# Altium schematic symbol library RF_Module.SchLib: 61 symbols (part 1 of 2)
Pins are listed as number, name and electrical type; pins without a type are passive.

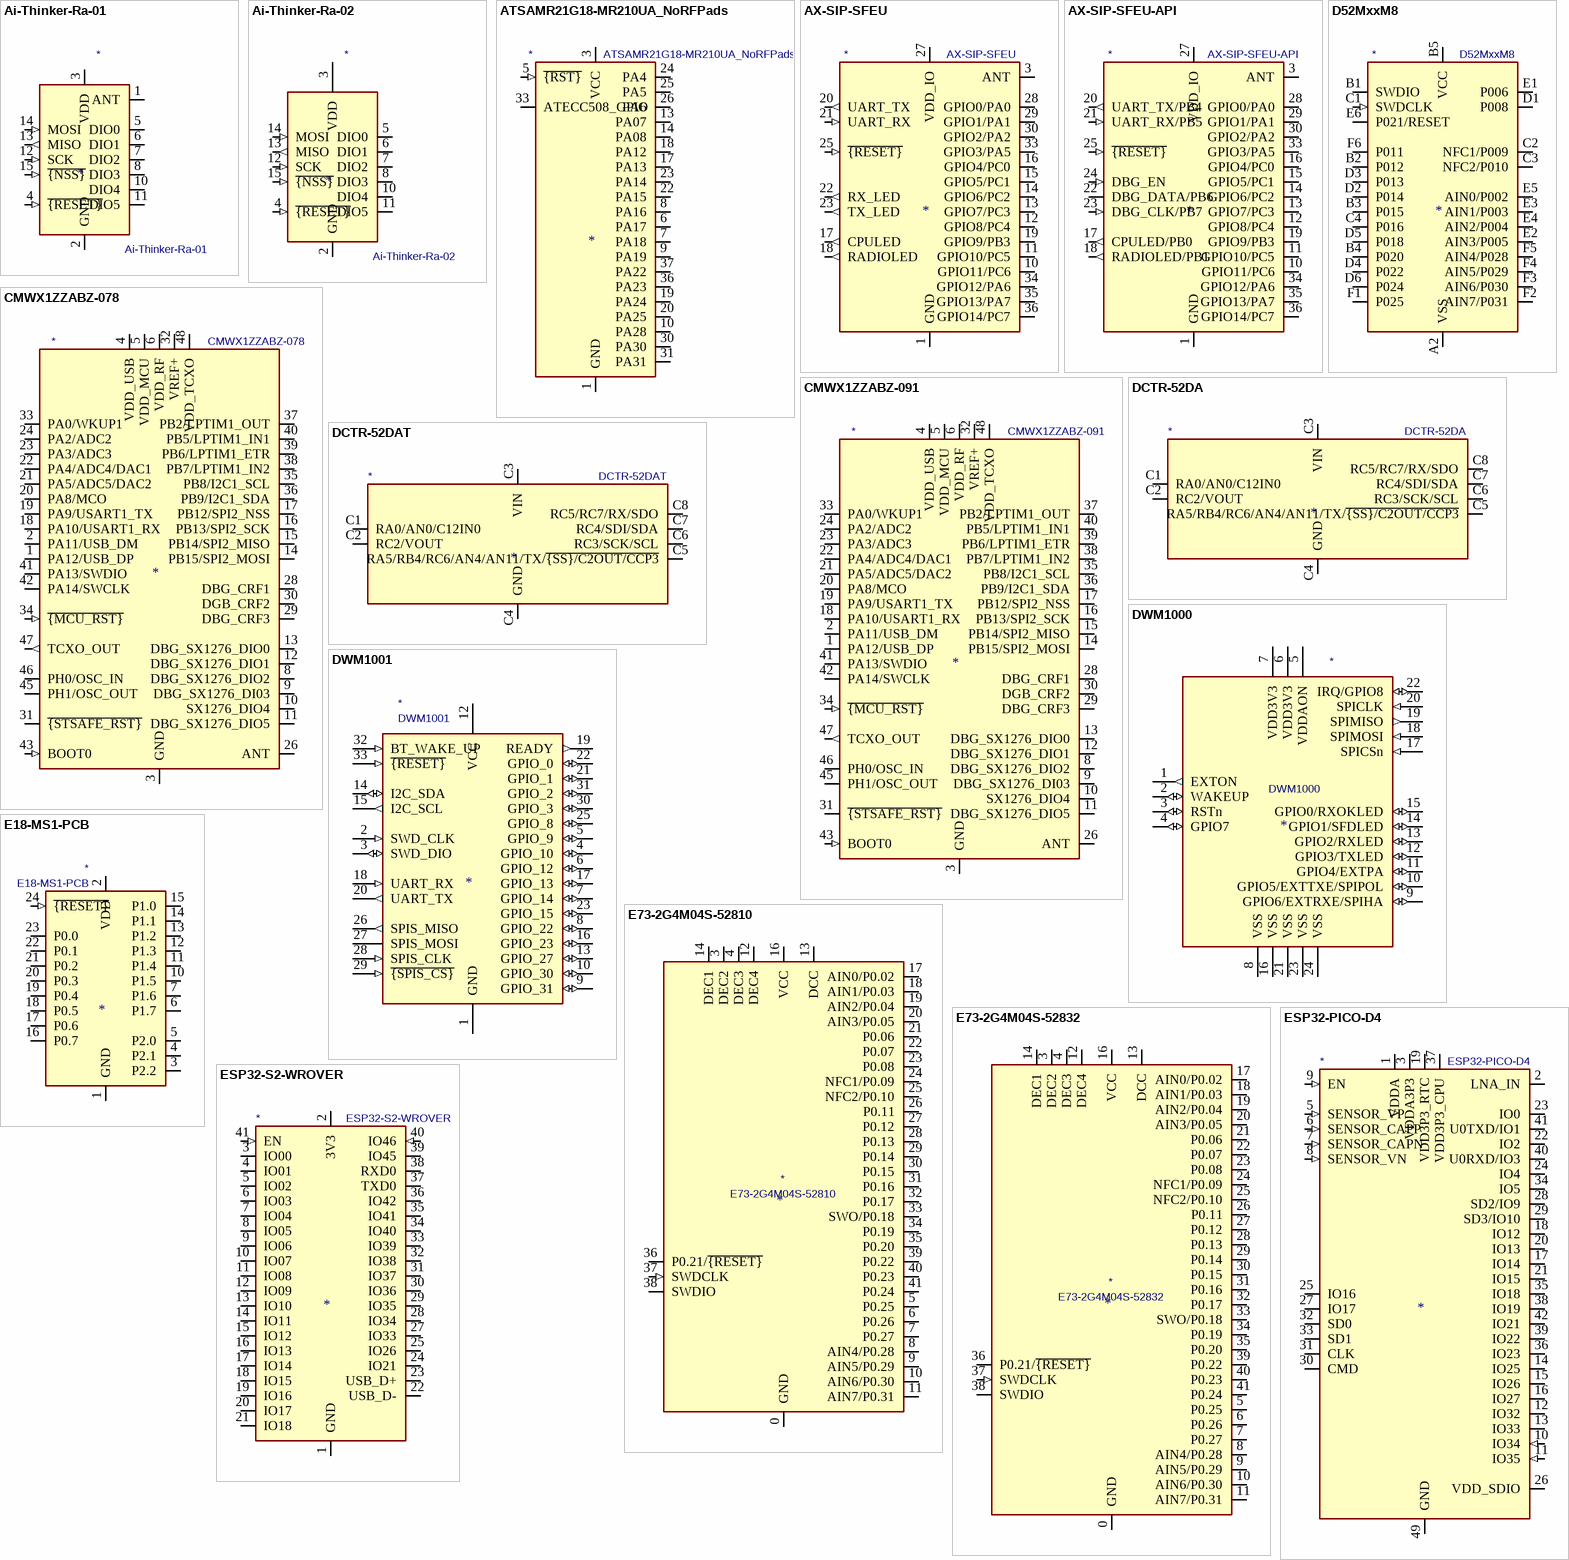
[diagram p0: symbols Ai-Thinker-Ra-01 to ESP32-S2-WROVER]

## Ai-Thinker-Ra-01
designator *  value Ai-Thinker-Ra-01
ki_keywords: Ra-01 LoRa; ki_description: Ai-Thinker Ra-01 410-525 MHz LoRa Module, SPI interface, external antenna; ki_fp_filters: Ai?Thinker?Ra?01*; Footprint: RF_Module:Ai-Thinker-Ra-01-LoRa; Supplier: http://wiki.ai-thinker.com/_media/lora/docs/c047ps01a1_ra-01_product_specification_v1.1.pdf
footprint Ai-Thinker-Ra-01-LoRa
pins: 1 ANT, 2 GND (power), 3 VDD (power), 4 ~{{RESET}} (in), 5 DIO0 (io), 6 DIO1 (io), 7 DIO2 (io), 8 DIO3 (io), 9 GND hidden, 10 DIO4 (io), 11 DIO5 (io), 12 SCK (in), 13 MISO (out), 14 MOSI (in), 15 ~{{NSS}} (in), 16 GND hidden

## Ai-Thinker-Ra-02
designator *  value Ai-Thinker-Ra-02
ki_keywords: Ra-02 LoRa; ki_description: Ai-Thinker Ra-02 410-525 MHz LoRa Module, SPI interface, U.FL antenna connector; ki_fp_filters: Ai?Thinker?Ra?01*; Footprint: RF_Module:Ai-Thinker-Ra-01-LoRa; Supplier: http://wiki.ai-thinker.com/_media/lora/docs/c048ps01a1_ra-02_product_specification_v1.1.pdf
footprint Ai-Thinker-Ra-01-LoRa
pins: 1 GND hidden, 2 GND (power), 3 VDD (power), 4 ~{{RESET}} (in), 5 DIO0 (io), 6 DIO1 (io), 7 DIO2 (io), 8 DIO3 (io), 9 GND hidden, 10 DIO4 (io), 11 DIO5 (io), 12 SCK (in), 13 MISO (out), 14 MOSI (in), 15 ~{{NSS}} (in), 16 GND hidden

## ATSAMR21G18-MR210UA_NoRFPads
designator *  value ATSAMR21G18-MR210UA_NoRFPads
ki_keywords: Wireless Zigbee 802.15.4 ATSAMR21G18 AT45DB041E TECC508A; ki_description: RF Module, ATSAMR21, Zigbee 802.15.4, external antenna, SMD; ki_fp_filters: Atmel*ATSAMR21G18*MR210UA*NoRFPads*; Footprint: RF_Module:Atmel_ATSAMR21G18-MR210UA_NoRFPads; Supplier: http://ww1.microchip.com/downloads/en/devicedoc/atmel-42475-atsamr21g18-mr210ua_datasheet.pdf
footprint Atmel_ATSAMR21G18-MR210UA_NoRFPads
pins: 1 GND (power), 2 GND hidden, 3 VCC (power), 4 VCC hidden, 5 ~{{RST}} (in), 6 PA17 (io), 7 PA18 (io), 8 PA16 (io), 9 PA19 (io), 10 PA28 (io), 11 NC (in) hidden, 12 GND hidden, 13 PA07 (io), 14 PA08 (io), 15 NC (in) hidden, 16 NC (in) hidden, 17 PA13 (io), 18 PA12 (io), 19 PA24 (io), 20 PA25 (io), 21 NC (in) hidden, 22 PA15 (io), 23 PA14 (io), 24 PA4 (io), 25 PA5 (io), 26 PA6 (io), 27 NC (in) hidden, 28 NC (in) hidden, 29 GND hidden, 30 PA30 (io), 31 PA31 (io), 32 NC (in) hidden, 33 ATECC508_GPIO (io), 34 NC (in) hidden, 35 NC (in) hidden, 36 PA23 (io), 37 PA22 (io), 38 NC (in) hidden, 39 NC (in) hidden, 40 NC (in) hidden, 41 GND hidden, 42 GND hidden

## AX-SIP-SFEU
designator *  value AX-SIP-SFEU
ki_keywords: Sigfox SIP 868Mhz; ki_description: Ultra low power, Sigfox or custom, system in package transceiver, 868Mhz; ki_fp_filters: OnSemi*SIP*6EP*9x7mm*P0.65mm*; Footprint: Package_DFN_QFN:OnSemi_SIP-38-6EP-9x7mm_P0.65mm_EP1.2x1.2mm; Supplier: https://www.onsemi.com/pub/Collateral/AX-SIP-SFEU-D.PDF
footprint OnSemi_SIP-38-6EP-9x7mm_P0.65mm_EP1.2x1.2mm
pins: 1 GND (power), 2 GND hidden, 3 ANT, 4 GND hidden, 5 NC (in) hidden, 6 GND hidden, 7 NC (in) hidden, 8 NC (in) hidden, 9 NC (in) hidden, 10 GPIO11/PC6 (io), 11 GPIO10/PC5 (io), 12 GPIO8/PC4 (io), 13 GPIO7/PC3 (io), 14 GPIO6/PC2 (io), 15 GPIO5/PC1 (io), 16 GPIO4/PC0 (io), 17 CPULED (out), 18 RADIOLED (out), 19 GPIO9/PB3 (io), 20 UART_TX (out), 21 UART_RX (in), 22 RX_LED (out), 23 TX_LED (out), 24 NC24 (in) hidden, 25 ~{{RESET}} (in), 26 GND hidden, 27 VDD_IO (power), 28 GPIO0/PA0 (io), 29 GPIO1/PA1 (io), 30 GPIO2/PA2 (io), 31 NC (in) hidden, 32 NC (in) hidden, 33 GPIO3/PA5 (io), 34 GPIO12/PA6 (io), 35 GPIO13/PA7 (io), 36 GPIO14/PC7 (io), 37 NC (in) hidden, 38 NC (in) hidden, 39 GND hidden, 40 GND hidden, 41 GND hidden, 42 GND hidden, 43 GND hidden, 44 GND hidden

## AX-SIP-SFEU-API
designator *  value AX-SIP-SFEU-API
ki_keywords: Sigfox SIP 868Mhz; ki_description: Ultra low power, Sigfox or custom, programmable system in package, 868Mhz; ki_fp_filters: OnSemi*SIP*6EP*9x7mm*P0.65mm*; Footprint: Package_DFN_QFN:OnSemi_SIP-38-6EP-9x7mm_P0.65mm_EP1.2x1.2mm; Supplier: https://www.onsemi.com/pub/Collateral/AX-SIP-SFEU-D.PDF
footprint OnSemi_SIP-38-6EP-9x7mm_P0.65mm_EP1.2x1.2mm
pins: 1 GND (power), 2 GND hidden, 3 ANT, 4 GND hidden, 5 NC (in) hidden, 6 GND hidden, 7 NC (in) hidden, 8 NC (in) hidden, 9 NC (in) hidden, 10 GPIO11/PC6 (io), 11 GPIO10/PC5 (io), 12 GPIO8/PC4 (io), 13 GPIO7/PC3 (io), 14 GPIO6/PC2 (io), 15 GPIO5/PC1 (io), 16 GPIO4/PC0 (io), 17 CPULED/PB0 (out), 18 RADIOLED/PB1 (out), 19 GPIO9/PB3 (io), 20 UART_TX/PB4 (out), 21 UART_RX/PB5 (in), 22 DBG_DATA/PB6 (io), 23 DBG_CLK/PB7 (in), 24 DBG_EN (in), 25 ~{{RESET}} (in), 26 GND hidden, 27 VDD_IO (power), 28 GPIO0/PA0 (io), 29 GPIO1/PA1 (io), 30 GPIO2/PA2 (io), 31 NC (in) hidden, 32 NC (in) hidden, 33 GPIO3/PA5 (io), 34 GPIO12/PA6 (io), 35 GPIO13/PA7 (io), 36 GPIO14/PC7 (io), 37 NC (in) hidden, 38 NC (in) hidden, 39 GND hidden, 40 GND hidden, 41 GND hidden, 42 GND hidden, 43 GND hidden, 44 GND hidden

## CMWX1ZZABZ-078
designator *  value CMWX1ZZABZ-078
ki_keywords: iot lora sigfox; ki_description: LoRa/SigFox Module, STM32L082 MCU, Murata CMWX1ZZABZ; ki_fp_filters: CMWX1ZZABZ*; Footprint: RF_Module:CMWX1ZZABZ; Supplier: https://wireless.murata.com/RFM/data/type_abz.pdf
footprint CMWX1ZZABZ
pins: 1 PA12/USB_DP (io), 2 PA11/USB_DM (io), 3 GND (power), 4 VDD_USB (power), 5 VDD_MCU (power), 6 VDD_RF (power), 7 GND hidden, 8 DBG_SX1276_DIO2 (io), 9 DBG_SX1276_DI03 (io), 10 SX1276_DIO4 (io), 11 DBG_SX1276_DIO5 (io), 12 DBG_SX1276_DIO1 (io), 13 DBG_SX1276_DIO0 (io), 14 PB15/SPI2_MOSI (io), 15 PB14/SPI2_MISO (io), 16 PB13/SPI2_SCK (io), 17 PB12/SPI2_NSS (io), 18 PA10/USART1_RX (io), 19 PA9/USART1_TX (io), 20 PA8/MCO (io), 21 PA5/ADC5/DAC2 (io), 22 PA4/ADC4/DAC1 (io), 23 PA3/ADC3 (io), 24 PA2/ADC2 (io), 25 GND hidden, 26 ANT, 27 GND hidden, 28 DBG_CRF1, 29 DBG_CRF3, 30 DGB_CRF2, 31 ~{{STSAFE_RST}}, 32 VREF+ (power), 33 PA0/WKUP1 (io), 34 ~{{MCU_RST}} (in), 35 PB8/I2C1_SCL (io), 36 PB9/I2C1_SDA (io), 37 PB2/LPTIM1_OUT (io), 38 PB7/LPTIM1_IN2 (io), 39 PB6/LPTIM1_ETR (io), 40 PB5/LPTIM1_IN1 (io), 41 PA13/SWDIO (io), 42 PA14/SWCLK (io), 43 BOOT0 (in), 44 GND hidden, 45 PH1/OSC_OUT (io), 46 PH0/OSC_IN (io), 47 TCXO_OUT (out), 48 VDD_TCXO (power), 49 GND hidden, 50 GND hidden, 51 GND hidden, 52 GND hidden, 53 GND hidden, 54 GND hidden, 55 GND hidden, 56 GND hidden, 57 GND hidden

## CMWX1ZZABZ-091
designator *  value CMWX1ZZABZ-091
ki_keywords: iot lora sigfox; ki_description: LoRa/SigFox Module, STM32L072 MCU, Murata CMWX1ZZABZ; ki_fp_filters: CMWX1ZZABZ*; Footprint: RF_Module:CMWX1ZZABZ; Supplier: https://wireless.murata.com/RFM/data/type_abz.pdf
footprint CMWX1ZZABZ
pins: 1 PA12/USB_DP (io), 2 PA11/USB_DM (io), 3 GND (power), 4 VDD_USB (power), 5 VDD_MCU (power), 6 VDD_RF (power), 7 GND hidden, 8 DBG_SX1276_DIO2 (io), 9 DBG_SX1276_DI03 (io), 10 SX1276_DIO4 (io), 11 DBG_SX1276_DIO5 (io), 12 DBG_SX1276_DIO1 (io), 13 DBG_SX1276_DIO0 (io), 14 PB15/SPI2_MOSI (io), 15 PB14/SPI2_MISO (io), 16 PB13/SPI2_SCK (io), 17 PB12/SPI2_NSS (io), 18 PA10/USART1_RX (io), 19 PA9/USART1_TX (io), 20 PA8/MCO (io), 21 PA5/ADC5/DAC2 (io), 22 PA4/ADC4/DAC1 (io), 23 PA3/ADC3 (io), 24 PA2/ADC2 (io), 25 GND hidden, 26 ANT, 27 GND hidden, 28 DBG_CRF1, 29 DBG_CRF3, 30 DGB_CRF2, 31 ~{{STSAFE_RST}}, 32 VREF+ (power), 33 PA0/WKUP1 (io), 34 ~{{MCU_RST}} (in), 35 PB8/I2C1_SCL (io), 36 PB9/I2C1_SDA (io), 37 PB2/LPTIM1_OUT (io), 38 PB7/LPTIM1_IN2 (io), 39 PB6/LPTIM1_ETR (io), 40 PB5/LPTIM1_IN1 (io), 41 PA13/SWDIO (io), 42 PA14/SWCLK (io), 43 BOOT0 (in), 44 GND hidden, 45 PH1/OSC_OUT (io), 46 PH0/OSC_IN (io), 47 TCXO_OUT (out), 48 VDD_TCXO (power), 49 GND hidden, 50 GND hidden, 51 GND hidden, 52 GND hidden, 53 GND hidden, 54 GND hidden, 55 GND hidden, 56 GND hidden, 57 GND hidden

## D52MxxM8
designator *  value D52MxxM8
ki_keywords: RF Radio ANT Bluetooth BLE D52 nRF52 Garmin Canada Dynastream Nordic; ki_description: D52M Module, nRF52832 SoC, ARM Cortex-M4F, 64kB RAM, 512kB Flash, 1.7-3.6V, M8-35; ki_fp_filters: Garmin*M8*9.8x14.0mm*Layout6x6*P1.5mm*; Footprint: RF_Module:Garmin_M8-35_9.8x14.0mm_Layout6x6_P1.5mm; Supplier: https://www.thisisant.com/assets/resources/D00001687_D52_Module_Datasheet.v.2.3_(Garmin).pdf
footprint Garmin_M8-35_9.8x14.0mm_Layout6x6_P1.5mm
pins: A2 VSS (power), A3 VSS hidden, A4 VSS hidden, A5 VSS hidden, A6 VSS hidden, B1 SWDIO (io), B2 P012 (io), B3 P015 (io), B4 P020 (io), B5 VCC (power), B6 VCC hidden, C1 SWDCLK (in), C2 NFC1/P009 (io), C3 NFC2/P010 (io), C4 P016 (io), C5 VCC hidden, C6 VCC hidden, D1 P008 (io), D2 P014 (io), D3 P013 (io), D4 P022 (io), D5 P018 (io), D6 P024 (io), E1 P006 (io), E2 AIN3/P005 (io), E3 AIN1/P003 (io), E4 AIN2/P004 (io), E5 AIN0/P002 (io), E6 P021/RESET (io), F1 P025 (io), F2 AIN7/P031 (io), F3 AIN6/P030 (io), F4 AIN5/P029 (io), F5 AIN4/P028 (io), F6 P011 (io)

## DCTR-52DA
designator *  value DCTR-52DA
ki_keywords: IQRF data controlled transceiver, PCB antenna, FSK modulation; ki_description: IQRF data controlled transceiver with PCB antenna, FSK modulation; ki_fp_filters: IQRF?TRx2DA?KON?SIM?01*; Footprint: RF_Module:IQRF_TRx2DA_KON-SIM-01; Supplier: https://iqrf.org/weben/downloads.php?id=213
footprint IQRF_TRx2DA_KON-SIM-01
pins: C1 RA0/AN0/C12IN0 (io), C2 RC2/VOUT (io), C3 VIN (power), C4 GND (power), C5 RA5/RB4/RC6/AN4/AN11/TX/~{{SS}/C2OUT/CCP3} (io), C6 RC3/SCK/SCL (io), C7 RC4/SDI/SDA (io), C8 RC5/RC7/RX/SDO (io)

## DCTR-52DAT
designator *  value DCTR-52DAT
ki_keywords: IQRF data controlled transceiver, PCB antenna, thermometer, FSK modulation; ki_description: IQRF data controlled transceiver with PCB antenna and thermometer, FSK modulation; ki_fp_filters: IQRF?TRx2DA?KON?SIM?01*; Footprint: RF_Module:IQRF_TRx2DA_KON-SIM-01; Supplier: https://iqrf.org/weben/downloads.php?id=213
footprint IQRF_TRx2DA_KON-SIM-01
pins: C1 RA0/AN0/C12IN0 (io), C2 RC2/VOUT (io), C3 VIN (power), C4 GND (power), C5 RA5/RB4/RC6/AN4/AN11/TX/~{{SS}/C2OUT/CCP3} (io), C6 RC3/SCK/SCL (io), C7 RC4/SDI/SDA (io), C8 RC5/RC7/RX/SDO (io)

## DWM1000
designator *  value DWM1000
ki_keywords: DWM1000,Decawave,RF,ranging,UWB; ki_description: Ultra wide band RF module With ranging location capabilities; ki_fp_filters: *DWM1000*; Footprint: RF_Module:DWM1000; Supplier: https://www.decawave.com/sites/default/files/resources/dwm1000-datasheet-v1.3.pdf
footprint DWM1000
pins: 1 EXTON (out), 2 WAKEUP (io), 3 RSTn (io), 4 GPIO7 (io), 5 VDDAON (power), 6 VDD3V3 (power), 7 VDD3V3 (power), 8 VSS (power), 9 GPIO6/EXTRXE/SPIHA (io), 10 GPIO5/EXTTXE/SPIPOL (io), 11 GPIO4/EXTPA (io), 12 GPIO3/TXLED (io), 13 GPIO2/RXLED (io), 14 GPIO1/SFDLED (io), 15 GPIO0/RXOKLED (io), 16 VSS (power), 17 SPICSn (in), 18 SPIMOSI (in), 19 SPIMISO (out), 20 SPICLK (in), 21 VSS (power), 22 IRQ/GPIO8 (io), 23 VSS (power), 24 VSS (power)

## DWM1001
designator *  value DWM1001
ki_keywords: DWM1000  DecaWave RF ranging UWB; ki_description: Ultra wide band RF module With ranging location capabilities, I2C, UART, SPI, +2.8V to +3.6V VCC; ki_fp_filters: *DWM1001*; Footprint: RF_Module:DecaWave_DWM1001; Supplier: https://www.decawave.com/sites/default/files/dwm1001_datasheet.pdf
footprint DecaWave_DWM1001
pins: 1 GND (power), 2 SWD_CLK (in), 3 SWD_DIO (io), 4 GPIO_10 (io), 5 GPIO_9 (io), 6 GPIO_12 (io), 7 GPIO_14 (io), 8 GPIO_22 (io), 9 GPIO_31 (io), 10 GPIO_30 (io), 11 GND hidden, 12 VCC (power), 13 GPIO_27 (io), 14 I2C_SDA (io), 15 I2C_SCL (out), 16 GPIO_23 (io), 17 GPIO_13 (io), 18 UART_RX (in), 19 READY (out), 20 UART_TX (out), 21 GPIO_1 (io), 22 GPIO_0 (io), 23 GPIO_15 (io), 24 GND hidden, 25 GPIO_8 (io), 26 SPIS_MISO (out), 27 SPIS_MOSI (hiz), 28 SPIS_CLK (in), 29 ~{{SPIS_CS}} (in), 30 GPIO_3 (io), 31 GPIO_2 (io), 32 BT_WAKE_UP (in), 33 ~{{RESET}} (in), 34 GND hidden

## E18-MS1-PCB
designator *  value E18-MS1-PCB
ki_keywords: Zigbee, RF, 802.15.4; ki_description: Zigbee RF Module; ki_fp_filters: E18-MS1-PCB*; Footprint: RF_Module:E18-MS1-PCB; Supplier: http://www.cdebyte.com/en/downpdf.aspx?id=122
footprint E18-MS1-PCB
pins: 1 GND (power), 2 VDD (power), 3 P2.2 (io), 4 P2.1 (io), 5 P2.0 (io), 6 P1.7 (io), 7 P1.6 (io), 8 NC (in) hidden, 9 NC (in) hidden, 10 P1.5 (io), 11 P1.4 (io), 12 P1.3 (io), 13 P1.2 (io), 14 P1.1 (io), 15 P1.0 (io), 16 P0.7 (io), 17 P0.6 (io), 18 P0.5 (io), 19 P0.4 (io), 20 P0.3 (io), 21 P0.2 (io), 22 P0.1 (io), 23 P0.0 (io), 24 ~{{RESET}} (in)

## E73-2G4M04S-52810
designator *  value E73-2G4M04S-52810
ki_keywords: BLE5, BLE, nRF52810; ki_description: nRF52810 BLE5 Module; ki_fp_filters: E73*2G4M04S*; Footprint: RF_Module:E73-2G4M04S; Supplier: http://www.cdebyte.com/en/downpdf.aspx?id=243
footprint E73-2G4M04S
pins: 0 GND (power), 1 GND hidden, 2 GND hidden, 3 DEC2, 4 DEC3, 5 P0.25 (io), 6 P0.26 (io), 7 P0.27 (io), 8 AIN4/P0.28 (io), 9 AIN5/P0.29 (io), 10 AIN6/P0.30 (io), 11 AIN7/P0.31 (io), 12 DEC4, 13 DCC (power), 14 DEC1, 15 GND hidden, 16 VCC (power), 17 AIN0/P0.02 (io), 18 AIN1/P0.03 (io), 19 AIN2/P0.04 (io), 20 AIN3/P0.05 (io), 21 P0.06 (io), 22 P0.07 (io), 23 P0.08 (io), 24 NFC1/P0.09 (io), 25 NFC2/P0.10 (io), 26 P0.11 (io), 27 P0.12 (io), 28 P0.13 (io), 29 P0.14 (io), 30 P0.15 (io), 31 P0.16 (io), 32 P0.17 (io), 33 SWO/P0.18 (io), 34 P0.19 (io), 35 P0.20 (io), 36 P0.21/~{{RESET}} (io), 37 SWDCLK (in), 38 SWDIO (io), 39 P0.22 (io), 40 P0.23 (io), 41 P0.24 (io), 42 GND hidden, 43 GND hidden

## E73-2G4M04S-52832
designator *  value E73-2G4M04S-52832
ki_keywords: BLE5, BLE, nRF52832; ki_description: nRF52832 BLE5 Module; ki_fp_filters: E73*2G4M04S*; Footprint: RF_Module:E73-2G4M04S; Supplier: http://www.cdebyte.com/en/downpdf.aspx?id=243
footprint E73-2G4M04S
pins: 0 GND (power), 1 GND hidden, 2 GND hidden, 3 DEC2, 4 DEC3, 5 P0.25 (io), 6 P0.26 (io), 7 P0.27 (io), 8 AIN4/P0.28 (io), 9 AIN5/P0.29 (io), 10 AIN6/P0.30 (io), 11 AIN7/P0.31 (io), 12 DEC4, 13 DCC (power), 14 DEC1, 15 GND hidden, 16 VCC (power), 17 AIN0/P0.02 (io), 18 AIN1/P0.03 (io), 19 AIN2/P0.04 (io), 20 AIN3/P0.05 (io), 21 P0.06 (io), 22 P0.07 (io), 23 P0.08 (io), 24 NFC1/P0.09 (io), 25 NFC2/P0.10 (io), 26 P0.11 (io), 27 P0.12 (io), 28 P0.13 (io), 29 P0.14 (io), 30 P0.15 (io), 31 P0.16 (io), 32 P0.17 (io), 33 SWO/P0.18 (io), 34 P0.19 (io), 35 P0.20 (io), 36 P0.21/~{{RESET}} (io), 37 SWDCLK (in), 38 SWDIO (io), 39 P0.22 (io), 40 P0.23 (io), 41 P0.24 (io), 42 GND hidden, 43 GND hidden

## ESP32-PICO-D4
designator *  value ESP32-PICO-D4
ki_keywords: RF Radio BT ESP ESP32 Espressif external antenna; ki_description: RF Module, ESP32 SoC, Wi-Fi 802.11b/g/n, Bluetooth, BLE, 32-bit, 2.7-3.6V, external antenna, QFN-48; ki_fp_filters: QFN*1EP*7x7mm*P0.5mm*; Footprint: Package_DFN_QFN:QFN-48-1EP_7x7mm_P0.5mm_EP5.3x5.3mm; Supplier: https://www.espressif.com/sites/default/files/documentation/esp32-pico-d4_datasheet_en.pdf
footprint QFN-48-1EP_7x7mm_P0.5mm_EP5.3x5.3mm
pins: 1 VDDA (power), 2 LNA_IN (io), 3 VDDA3P3 (power), 4 VDDA3P3 hidden, 5 SENSOR_VP (in), 6 SENSOR_CAPP (in), 7 SENSOR_CAPN (in), 8 SENSOR_VN (in), 9 EN (in), 10 IO34 (in), 11 IO35 (in), 12 IO32 (io), 13 IO33 (io), 14 IO25 (io), 15 IO26 (io), 16 IO27 (io), 17 IO14 (io), 18 IO12 (io), 19 VDD3P3_RTC (power), 20 IO13 (io), 21 IO15 (io), 22 IO2 (io), 23 IO0 (io), 24 IO4 (io), 25 IO16 (io), 26 VDD_SDIO (power), 27 IO17 (io), 28 SD2/IO9 (io), 29 SD3/IO10 (io), 30 CMD (io), 31 CLK (io), 32 SD0 (io), 33 SD1 (io), 34 IO5 (io), 35 IO18 (io), 36 IO23 (io), 37 VDD3P3_CPU (power), 38 IO19 (io), 39 IO22 (io), 40 U0RXD/IO3 (io), 41 U0TXD/IO1 (io), 42 IO21 (io), 43 VDDA hidden, 44 XTAL_N_NC (in) hidden, 45 XTAL_P_NC (in) hidden, 46 VDDA hidden, 47 CAP2_NC (in) hidden, 48 CAP1_NC (in) hidden, 49 GND (power)

## ESP32-S2-WROVER
designator *  value ESP32-S2-WROVER
ki_keywords: RF Radio ESP ESP32 Espressif onboard PCB antenna; ki_description: RF Module, ESP32-D0WDQ6 SoC, Wi-Fi 802.11b/g/n, 32-bit, 2.7-3.6V, onboard antenna, SMD; ki_fp_filters: ESP32?S2?WROVER*; Footprint: RF_Module:ESP32-S2-WROVER; Supplier: https://www.espressif.com/sites/default/files/documentation/esp32-s2-wroom_esp32-s2-wroom-i_datasheet_en.pdf
footprint ESP32-S2-WROVER
pins: 1 GND (power), 2 3V3 (power), 3 IO00 (io), 4 IO01 (io), 5 IO02 (io), 6 IO03 (io), 7 IO04 (io), 8 IO05 (io), 9 IO06 (io), 10 IO07 (io), 11 IO08 (io), 12 IO09 (io), 13 IO10 (io), 14 IO11 (io), 15 IO12 (io), 16 IO13 (io), 17 IO14 (io), 18 IO15 (io), 19 IO16 (io), 20 IO17 (io), 21 IO18 (io), 22 USB_D- (io), 23 USB_D+ (io), 24 IO21 (io), 25 IO26 (io), 26 GND hidden, 27 IO33 (io), 28 IO34 (io), 29 IO35 (io), 30 IO36 (io), 31 IO37 (io), 32 IO38 (io), 33 IO39 (io), 34 IO40 (io), 35 IO41 (io), 36 IO42 (io), 37 TXD0 (io), 38 RXD0 (io), 39 IO45 (io), 40 IO46 (in), 41 EN (in), 42 GND hidden, 43 GND hidden

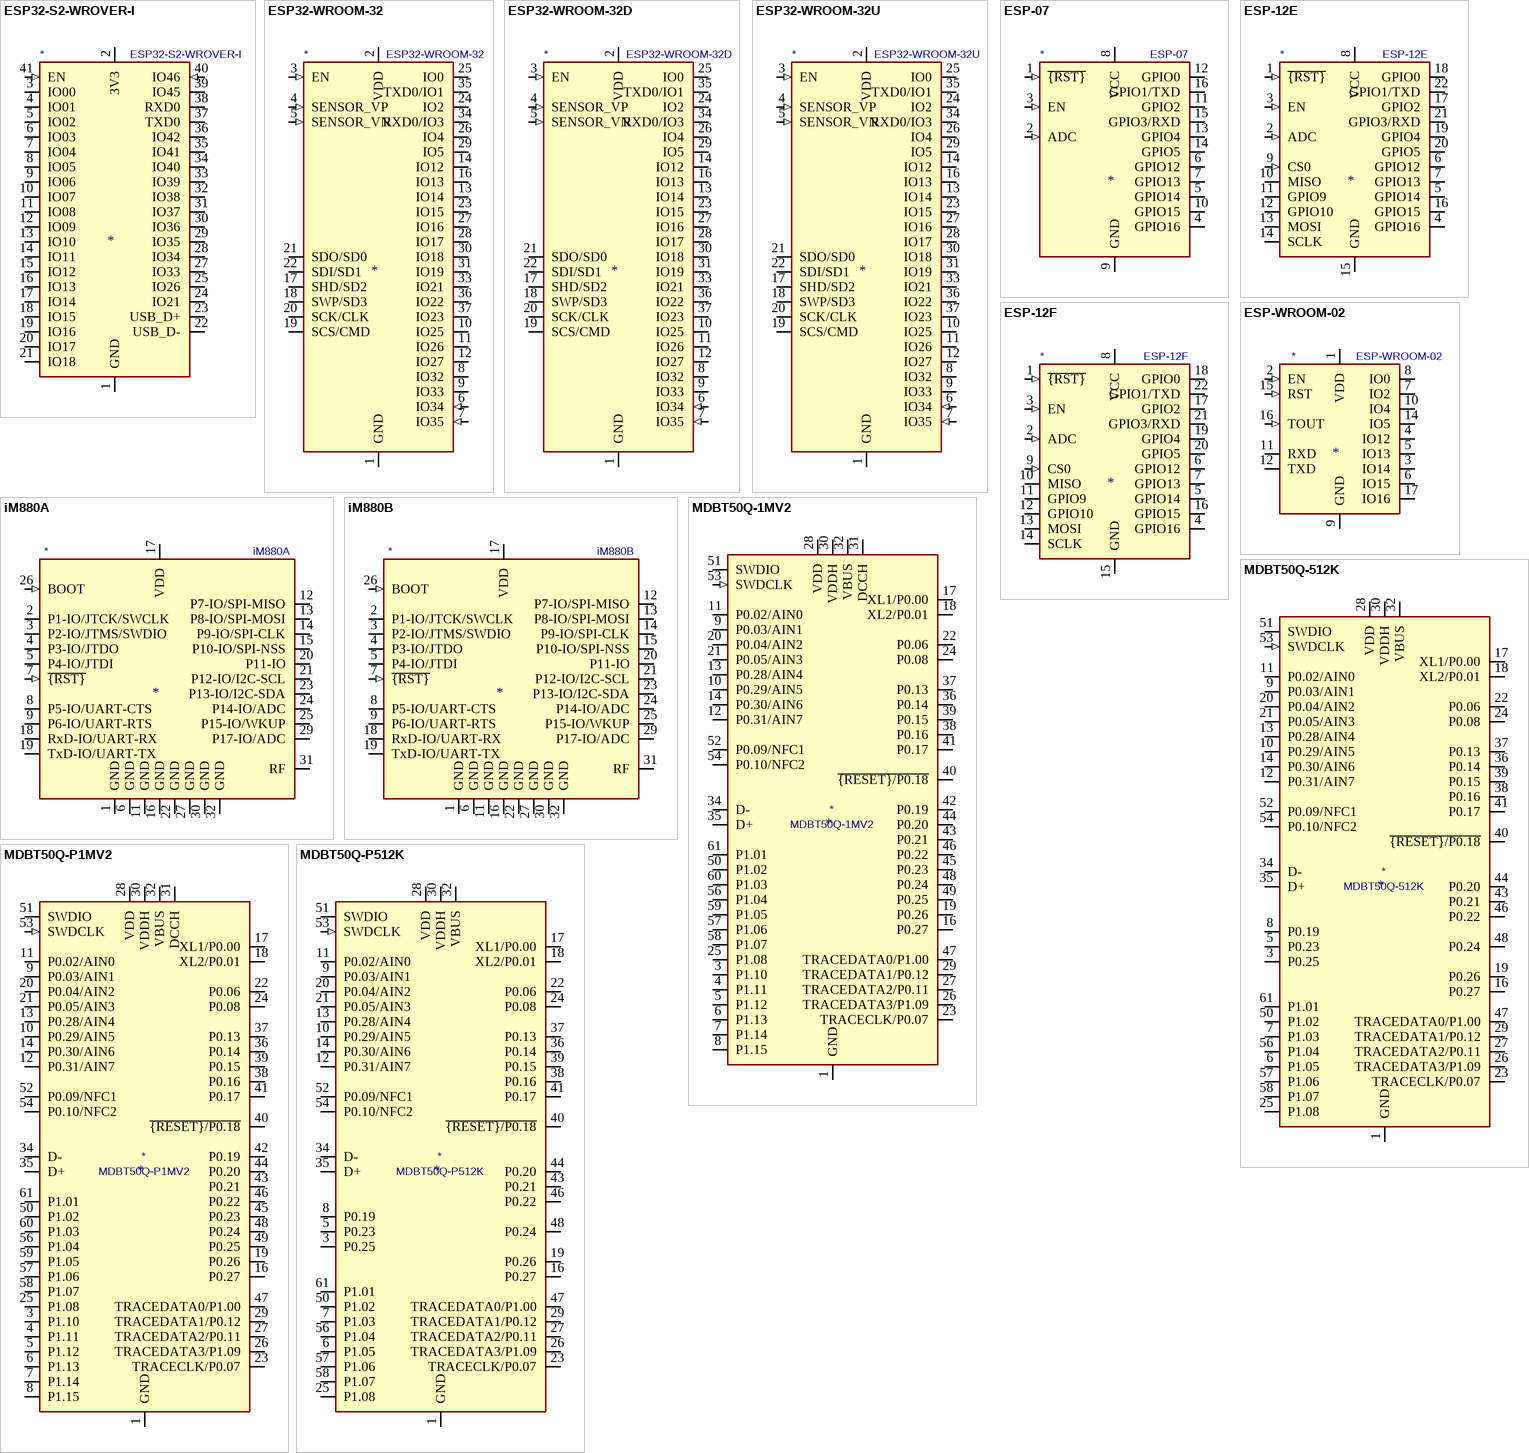
[diagram p1: symbols ESP32-S2-WROVER-I to MDBT50Q-P512K]

## ESP32-S2-WROVER-I
designator *  value ESP32-S2-WROVER-I
ki_keywords: RF Radio ESP ESP32 Espressif onboard PCB antenna; ki_description: RF Module, ESP32-D0WDQ6 SoC, Wi-Fi 802.11b/g/n, 32-bit, 2.7-3.6V, onboard antenna, SMD; ki_fp_filters: ESP32?S2?WROVER*; Footprint: RF_Module:ESP32-S2-WROVER; Supplier: https://www.espressif.com/sites/default/files/documentation/esp32-s2-wroom_esp32-s2-wroom-i_datasheet_en.pdf
footprint ESP32-S2-WROVER
pins: 1 GND (power), 2 3V3 (power), 3 IO00 (io), 4 IO01 (io), 5 IO02 (io), 6 IO03 (io), 7 IO04 (io), 8 IO05 (io), 9 IO06 (io), 10 IO07 (io), 11 IO08 (io), 12 IO09 (io), 13 IO10 (io), 14 IO11 (io), 15 IO12 (io), 16 IO13 (io), 17 IO14 (io), 18 IO15 (io), 19 IO16 (io), 20 IO17 (io), 21 IO18 (io), 22 USB_D- (io), 23 USB_D+ (io), 24 IO21 (io), 25 IO26 (io), 26 GND hidden, 27 IO33 (io), 28 IO34 (io), 29 IO35 (io), 30 IO36 (io), 31 IO37 (io), 32 IO38 (io), 33 IO39 (io), 34 IO40 (io), 35 IO41 (io), 36 IO42 (io), 37 TXD0 (io), 38 RXD0 (io), 39 IO45 (io), 40 IO46 (in), 41 EN (in), 42 GND hidden, 43 GND hidden

## ESP32-WROOM-32
designator *  value ESP32-WROOM-32
ki_keywords: RF Radio BT ESP ESP32 Espressif onboard PCB antenna; ki_description: RF Module, ESP32-D0WDQ6 SoC, Wi-Fi 802.11b/g/n, Bluetooth, BLE, 32-bit, 2.7-3.6V, onboard antenna, SMD; ki_fp_filters: ESP32?WROOM?32*; Footprint: RF_Module:ESP32-WROOM-32; Supplier: https://www.espressif.com/sites/default/files/documentation/esp32-wroom-32_datasheet_en.pdf
footprint ESP32-WROOM-32
pins: 1 GND (power), 2 VDD (power), 3 EN (in), 4 SENSOR_VP (in), 5 SENSOR_VN (in), 6 IO34 (in), 7 IO35 (in), 8 IO32 (io), 9 IO33 (io), 10 IO25 (io), 11 IO26 (io), 12 IO27 (io), 13 IO14 (io), 14 IO12 (io), 15 GND hidden, 16 IO13 (io), 17 SHD/SD2 (io), 18 SWP/SD3 (io), 19 SCS/CMD (io), 20 SCK/CLK (io), 21 SDO/SD0 (io), 22 SDI/SD1 (io), 23 IO15 (io), 24 IO2 (io), 25 IO0 (io), 26 IO4 (io), 27 IO16 (io), 28 IO17 (io), 29 IO5 (io), 30 IO18 (io), 31 IO19 (io), 32 NC (in) hidden, 33 IO21 (io), 34 RXD0/IO3 (io), 35 TXD0/IO1 (io), 36 IO22 (io), 37 IO23 (io), 38 GND hidden, 39 GND hidden

## ESP32-WROOM-32D
designator *  value ESP32-WROOM-32D
ki_keywords: RF Radio BT ESP ESP32 Espressif onboard PCB antenna; ki_description: RF Module, ESP32-D0WD SoC, Wi-Fi 802.11b/g/n, Bluetooth, BLE, 32-bit, 2.7-3.6V, onboard antenna, SMD; ki_fp_filters: ESP32?WROOM?32*; Footprint: RF_Module:ESP32-WROOM-32; Supplier: https://www.espressif.com/sites/default/files/documentation/esp32-wroom-32d_esp32-wroom-32u_datasheet_en.pdf
footprint ESP32-WROOM-32
pins: 1 GND (power), 2 VDD (power), 3 EN (in), 4 SENSOR_VP (in), 5 SENSOR_VN (in), 6 IO34 (in), 7 IO35 (in), 8 IO32 (io), 9 IO33 (io), 10 IO25 (io), 11 IO26 (io), 12 IO27 (io), 13 IO14 (io), 14 IO12 (io), 15 GND hidden, 16 IO13 (io), 17 SHD/SD2 (io), 18 SWP/SD3 (io), 19 SCS/CMD (io), 20 SCK/CLK (io), 21 SDO/SD0 (io), 22 SDI/SD1 (io), 23 IO15 (io), 24 IO2 (io), 25 IO0 (io), 26 IO4 (io), 27 IO16 (io), 28 IO17 (io), 29 IO5 (io), 30 IO18 (io), 31 IO19 (io), 32 NC (in) hidden, 33 IO21 (io), 34 RXD0/IO3 (io), 35 TXD0/IO1 (io), 36 IO22 (io), 37 IO23 (io), 38 GND hidden, 39 GND hidden

## ESP32-WROOM-32U
designator *  value ESP32-WROOM-32U
ki_keywords: RF Radio BT ESP ESP32 Espressif external U.FL antenna; ki_description: RF Module, ESP32-D0WD SoC, Wi-Fi 802.11b/g/n, Bluetooth, BLE, 32-bit, 2.7-3.6V, external antenna, SMD; ki_fp_filters: ESP32?WROOM?32U*; Footprint: RF_Module:ESP32-WROOM-32U; Supplier: https://www.espressif.com/sites/default/files/documentation/esp32-wroom-32d_esp32-wroom-32u_datasheet_en.pdf
footprint ESP32-WROOM-32U
pins: 1 GND (power), 2 VDD (power), 3 EN (in), 4 SENSOR_VP (in), 5 SENSOR_VN (in), 6 IO34 (in), 7 IO35 (in), 8 IO32 (io), 9 IO33 (io), 10 IO25 (io), 11 IO26 (io), 12 IO27 (io), 13 IO14 (io), 14 IO12 (io), 15 GND hidden, 16 IO13 (io), 17 SHD/SD2 (io), 18 SWP/SD3 (io), 19 SCS/CMD (io), 20 SCK/CLK (io), 21 SDO/SD0 (io), 22 SDI/SD1 (io), 23 IO15 (io), 24 IO2 (io), 25 IO0 (io), 26 IO4 (io), 27 IO16 (io), 28 IO17 (io), 29 IO5 (io), 30 IO18 (io), 31 IO19 (io), 32 NC (in) hidden, 33 IO21 (io), 34 RXD0/IO3 (io), 35 TXD0/IO1 (io), 36 IO22 (io), 37 IO23 (io), 38 GND hidden, 39 GND hidden

## ESP-07
designator *  value ESP-07
ki_keywords: 802.11 Wi-Fi; ki_description: 802.11 b/g/n Wi-Fi Module; ki_fp_filters: ESP?07*; Footprint: RF_Module:ESP-07; Supplier: http://wiki.ai-thinker.com/_media/esp8266/esp8266_series_modules_user_manual_v1.1.pdf
footprint ESP-07
pins: 1 ~{{RST}} (in), 2 ADC (in), 3 EN (in), 4 GPIO16 (io), 5 GPIO14 (io), 6 GPIO12 (io), 7 GPIO13 (io), 8 VCC (power), 9 GND (power), 10 GPIO15 (io), 11 GPIO2 (io), 12 GPIO0 (io), 13 GPIO4 (io), 14 GPIO5 (io), 15 GPIO3/RXD (io), 16 GPIO1/TXD (io)

## ESP-12E
designator *  value ESP-12E
ki_keywords: 802.11 Wi-Fi; ki_description: 802.11 b/g/n Wi-Fi Module; ki_fp_filters: ESP?12*; Footprint: RF_Module:ESP-12E; Supplier: http://wiki.ai-thinker.com/_media/esp8266/esp8266_series_modules_user_manual_v1.1.pdf
footprint ESP-12E
pins: 1 ~{{RST}} (in), 2 ADC (in), 3 EN (in), 4 GPIO16 (io), 5 GPIO14 (io), 6 GPIO12 (io), 7 GPIO13 (io), 8 VCC (power), 9 CS0 (in), 10 MISO (io), 11 GPIO9 (io), 12 GPIO10 (io), 13 MOSI (io), 14 SCLK (io), 15 GND (power), 16 GPIO15 (io), 17 GPIO2 (io), 18 GPIO0 (io), 19 GPIO4 (io), 20 GPIO5 (io), 21 GPIO3/RXD (io), 22 GPIO1/TXD (io)

## ESP-12F
designator *  value ESP-12F
ki_keywords: 802.11 Wi-Fi; ki_description: 802.11 b/g/n Wi-Fi Module; ki_fp_filters: ESP?12*; Footprint: RF_Module:ESP-12E; Supplier: http://wiki.ai-thinker.com/_media/esp8266/esp8266_series_modules_user_manual_v1.1.pdf
footprint ESP-12E
pins: 1 ~{{RST}} (in), 2 ADC (in), 3 EN (in), 4 GPIO16 (io), 5 GPIO14 (io), 6 GPIO12 (io), 7 GPIO13 (io), 8 VCC (power), 9 CS0 (in), 10 MISO (io), 11 GPIO9 (io), 12 GPIO10 (io), 13 MOSI (io), 14 SCLK (io), 15 GND (power), 16 GPIO15 (io), 17 GPIO2 (io), 18 GPIO0 (io), 19 GPIO4 (io), 20 GPIO5 (io), 21 GPIO3/RXD (io), 22 GPIO1/TXD (io)

## ESP-WROOM-02
designator *  value ESP-WROOM-02
ki_keywords: RF Radio ESP Espressif; ki_description: Wi-Fi Module, ESP8266EX SoC, 32-bit, 802.11b/g/n, WPA/WPA2, 2.7-3.6V, SMD; ki_fp_filters: ESP?WROOM?02*; Footprint: RF_Module:ESP-WROOM-02; Supplier: https://www.espressif.com/sites/default/files/documentation/0c-esp-wroom-02_datasheet_en.pdf
footprint ESP-WROOM-02
pins: 1 VDD (power), 2 EN (in), 3 IO14 (io), 4 IO12 (io), 5 IO13 (io), 6 IO15 (io), 7 IO2 (io), 8 IO0 (io), 9 GND (power), 10 IO4 (io), 11 RXD (io), 12 TXD (io), 13 GND hidden, 14 IO5 (io), 15 RST (in), 16 TOUT (in), 17 IO16 (io), 18 GND hidden, 19 GND hidden

## iM880A
designator *  value iM880A
ki_keywords: IOT LoRa; ki_description: IMST Long Range Radio Module; Supplier: http://www.wireless-solutions.de/images/stories/downloads/Radio%20Modules/iM880A/General_Information/iM880A_Datasheet_V1_1.pdf
pins: 1 GND (power), 2 P1-IO/JTCK/SWCLK (io), 3 P2-IO/JTMS/SWDIO (io), 4 P3-IO/JTDO (io), 5 P4-IO/JTDI (io), 6 GND (power), 7 ~{{RST}} (in), 8 P5-IO/UART-CTS (io), 9 P6-IO/UART-RTS (io), 10 NC (in) hidden, 11 GND (power), 12 P7-IO/SPI-MISO (io), 13 P8-IO/SPI-MOSI (io), 14 P9-IO/SPI-CLK (io), 15 P10-IO/SPI-NSS (io), 16 GND (power), 17 VDD (power), 18 RxD-IO/UART-RX (io), 19 TxD-IO/UART-TX (io), 20 P11-IO (io), 21 P12-IO/I2C-SCL (io), 22 GND (power), 23 P13-IO/I2C-SDA (io), 24 P14-IO/ADC (io), 25 P15-IO/WKUP (io), 26 BOOT (in), 27 GND (power), 28 NC (in) hidden, 29 P17-IO/ADC (io), 30 GND (power), 31 RF (io), 32 GND (power)

## iM880B
designator *  value iM880B
ki_keywords: IOT LoRa; ki_description: IMST Long Range Radio Module - LoRa Alliance Certified; Supplier: http://www.wireless-solutions.de/images/stories/downloads/Radio%20Modules/iM880B/General_Information/iM880B_Datasheet_V1_0.pdf
pins: 1 GND (power), 2 P1-IO/JTCK/SWCLK (io), 3 P2-IO/JTMS/SWDIO (io), 4 P3-IO/JTDO (io), 5 P4-IO/JTDI (io), 6 GND (power), 7 ~{{RST}} (in), 8 P5-IO/UART-CTS (io), 9 P6-IO/UART-RTS (io), 10 NC (in) hidden, 11 GND (power), 12 P7-IO/SPI-MISO (io), 13 P8-IO/SPI-MOSI (io), 14 P9-IO/SPI-CLK (io), 15 P10-IO/SPI-NSS (io), 16 GND (power), 17 VDD (power), 18 RxD-IO/UART-RX (io), 19 TxD-IO/UART-TX (io), 20 P11-IO (io), 21 P12-IO/I2C-SCL (io), 22 GND (power), 23 P13-IO/I2C-SDA (io), 24 P14-IO/ADC (io), 25 P15-IO/WKUP (io), 26 BOOT (in), 27 GND (power), 28 NC (in) hidden, 29 P17-IO/ADC (io), 30 GND (power), 31 RF (io), 32 GND (power)

## MDBT50Q-1MV2
designator *  value MDBT50Q-1MV2
ki_keywords: BLE ANT ZigBee Thread 802.15.4 nRF52840 nordic MDBT50Q; ki_description: Multiprotocol BLE/ANT/2.4 GHz/802.15.4 Cortex-M4F SoC, nRF52840 module; ki_fp_filters: Raytac?MDBT50Q*; Footprint: RF_Module:Raytac_MDBT50Q; Supplier: https://www.raytac.com/download/index.php?index_id=43
footprint Raytac_MDBT50Q
pins: 1 GND (power), 2 GND hidden, 3 P1.10 (io), 4 P1.11 (io), 5 P1.12 (io), 6 P1.13 (io), 7 P1.14 (io), 8 P1.15 (io), 9 P0.03/AIN1 (io), 10 P0.29/AIN5 (io), 11 P0.02/AIN0 (io), 12 P0.31/AIN7 (io), 13 P0.28/AIN4 (io), 14 P0.30/AIN6 (io), 15 GND hidden, 16 P0.27 (io), 17 XL1/P0.00 (io), 18 XL2/P0.01 (io), 19 P0.26 (io), 20 P0.04/AIN2 (io), 21 P0.05/AIN3 (io), 22 P0.06 (io), 23 TRACECLK/P0.07 (io), 24 P0.08 (io), 25 P1.08 (io), 26 TRACEDATA3/P1.09 (io), 27 TRACEDATA2/P0.11 (io), 28 VDD (power), 29 TRACEDATA1/P0.12 (io), 30 VDDH (power), 31 DCCH (power), 32 VBUS (power), 33 GND hidden, 34 D- (io), 35 D+ (io), 36 P0.14 (io), 37 P0.13 (io), 38 P0.16 (io), 39 P0.15 (io), 40 ~{{RESET}/P0.18} (io), 41 P0.17 (io), 42 P0.19 (io), 43 P0.21 (io), 44 P0.20 (io), 45 P0.23 (io), 46 P0.22 (io), 47 TRACEDATA0/P1.00 (io), 48 P0.24 (io), 49 P0.25 (io), 50 P1.02 (io), 51 SWDIO (io), 52 P0.09/NFC1 (io), 53 SWDCLK (in), 54 P0.10/NFC2 (io), 55 GND hidden, 56 P1.04 (io), 57 P1.06 (io), 58 P1.07 (io), 59 P1.05 (io), 60 P1.03 (io), 61 P1.01 (io)

## MDBT50Q-512K
designator *  value MDBT50Q-512K
ki_keywords: MCU, ARM, BLE, ANT, 2.4GHz, 802.15.4 MDBT50Q; ki_description: Multiprotocol BLE/ANT/2.4 GHz/802.15.4 Cortex-M4F SoC, nRF52833 module; ki_fp_filters: Raytac?MDBT50Q*; Footprint: RF_Module:Raytac_MDBT50Q; Supplier: https://www.raytac.com/download/index.php?index_id=46
footprint Raytac_MDBT50Q
pins: 1 GND (power), 2 GND hidden, 3 P0.25 (io), 4 NC (in) hidden, 5 P0.23 (io), 6 P1.05 (io), 7 P1.03 (io), 8 P0.19 (io), 9 P0.03/AIN1 (io), 10 P0.29/AIN5 (io), 11 P0.02/AIN0 (io), 12 P0.31/AIN7 (io), 13 P0.28/AIN4 (io), 14 P0.30/AIN6 (io), 15 GND hidden, 16 P0.27 (io), 17 XL1/P0.00 (io), 18 XL2/P0.01 (io), 19 P0.26 (io), 20 P0.04/AIN2 (io), 21 P0.05/AIN3 (io), 22 P0.06 (io), 23 TRACECLK/P0.07 (io), 24 P0.08 (io), 25 P1.08 (io), 26 TRACEDATA3/P1.09 (io), 27 TRACEDATA2/P0.11 (io), 28 VDD (power), 29 TRACEDATA1/P0.12 (io), 30 VDDH (power), 31 NC (in) hidden, 32 VBUS (power), 33 GND hidden, 34 D- (io), 35 D+ (io), 36 P0.14 (io), 37 P0.13 (io), 38 P0.16 (io), 39 P0.15 (io), 40 ~{{RESET}/P0.18} (io), 41 P0.17 (io), 42 P0.19 (in) hidden, 43 P0.21 (io), 44 P0.20 (io), 45 NC (in) hidden, 46 P0.22 (io), 47 TRACEDATA0/P1.00 (io), 48 P0.24 (io), 49 NC (in) hidden, 50 P1.02 (io), 51 SWDIO (io), 52 P0.09/NFC1 (io), 53 SWDCLK (in), 54 P0.10/NFC2 (io), 55 GND hidden, 56 P1.04 (io), 57 P1.06 (io), 58 P1.07 (io), 59 NC (in) hidden, 60 NC (in) hidden, 61 P1.01 (io)

## MDBT50Q-P1MV2
designator *  value MDBT50Q-P1MV2
ki_keywords: BLE ANT ZigBee Thread 802.15.4 nRF52840 nordic MDBT50Q; ki_description: Multiprotocol BLE/ANT/2.4 GHz/802.15.4 Cortex-M4F SoC, nRF52840 module; ki_fp_filters: Raytac?MDBT50Q*; Footprint: RF_Module:Raytac_MDBT50Q; Supplier: https://www.raytac.com/download/index.php?index_id=43
footprint Raytac_MDBT50Q
pins: 1 GND (power), 2 GND hidden, 3 P1.10 (io), 4 P1.11 (io), 5 P1.12 (io), 6 P1.13 (io), 7 P1.14 (io), 8 P1.15 (io), 9 P0.03/AIN1 (io), 10 P0.29/AIN5 (io), 11 P0.02/AIN0 (io), 12 P0.31/AIN7 (io), 13 P0.28/AIN4 (io), 14 P0.30/AIN6 (io), 15 GND hidden, 16 P0.27 (io), 17 XL1/P0.00 (io), 18 XL2/P0.01 (io), 19 P0.26 (io), 20 P0.04/AIN2 (io), 21 P0.05/AIN3 (io), 22 P0.06 (io), 23 TRACECLK/P0.07 (io), 24 P0.08 (io), 25 P1.08 (io), 26 TRACEDATA3/P1.09 (io), 27 TRACEDATA2/P0.11 (io), 28 VDD (power), 29 TRACEDATA1/P0.12 (io), 30 VDDH (power), 31 DCCH (power), 32 VBUS (power), 33 GND hidden, 34 D- (io), 35 D+ (io), 36 P0.14 (io), 37 P0.13 (io), 38 P0.16 (io), 39 P0.15 (io), 40 ~{{RESET}/P0.18} (io), 41 P0.17 (io), 42 P0.19 (io), 43 P0.21 (io), 44 P0.20 (io), 45 P0.23 (io), 46 P0.22 (io), 47 TRACEDATA0/P1.00 (io), 48 P0.24 (io), 49 P0.25 (io), 50 P1.02 (io), 51 SWDIO (io), 52 P0.09/NFC1 (io), 53 SWDCLK (in), 54 P0.10/NFC2 (io), 55 GND hidden, 56 P1.04 (io), 57 P1.06 (io), 58 P1.07 (io), 59 P1.05 (io), 60 P1.03 (io), 61 P1.01 (io)

## MDBT50Q-P512K
designator *  value MDBT50Q-P512K
ki_keywords: MCU, ARM, BLE, ANT, 2.4GHz, 802.15.4 MDBT50Q; ki_description: Multiprotocol BLE/ANT/2.4 GHz/802.15.4 Cortex-M4F SoC, nRF52833 module; ki_fp_filters: Raytac?MDBT50Q*; Footprint: RF_Module:Raytac_MDBT50Q; Supplier: https://www.raytac.com/download/index.php?index_id=46
footprint Raytac_MDBT50Q
pins: 1 GND (power), 2 GND hidden, 3 P0.25 (io), 4 NC (in) hidden, 5 P0.23 (io), 6 P1.05 (io), 7 P1.03 (io), 8 P0.19 (io), 9 P0.03/AIN1 (io), 10 P0.29/AIN5 (io), 11 P0.02/AIN0 (io), 12 P0.31/AIN7 (io), 13 P0.28/AIN4 (io), 14 P0.30/AIN6 (io), 15 GND hidden, 16 P0.27 (io), 17 XL1/P0.00 (io), 18 XL2/P0.01 (io), 19 P0.26 (io), 20 P0.04/AIN2 (io), 21 P0.05/AIN3 (io), 22 P0.06 (io), 23 TRACECLK/P0.07 (io), 24 P0.08 (io), 25 P1.08 (io), 26 TRACEDATA3/P1.09 (io), 27 TRACEDATA2/P0.11 (io), 28 VDD (power), 29 TRACEDATA1/P0.12 (io), 30 VDDH (power), 31 NC (in) hidden, 32 VBUS (power), 33 GND hidden, 34 D- (io), 35 D+ (io), 36 P0.14 (io), 37 P0.13 (io), 38 P0.16 (io), 39 P0.15 (io), 40 ~{{RESET}/P0.18} (io), 41 P0.17 (io), 42 P0.19 (in) hidden, 43 P0.21 (io), 44 P0.20 (io), 45 NC (in) hidden, 46 P0.22 (io), 47 TRACEDATA0/P1.00 (io), 48 P0.24 (io), 49 NC (in) hidden, 50 P1.02 (io), 51 SWDIO (io), 52 P0.09/NFC1 (io), 53 SWDCLK (in), 54 P0.10/NFC2 (io), 55 GND hidden, 56 P1.04 (io), 57 P1.06 (io), 58 P1.07 (io), 59 NC (in) hidden, 60 NC (in) hidden, 61 P1.01 (io)

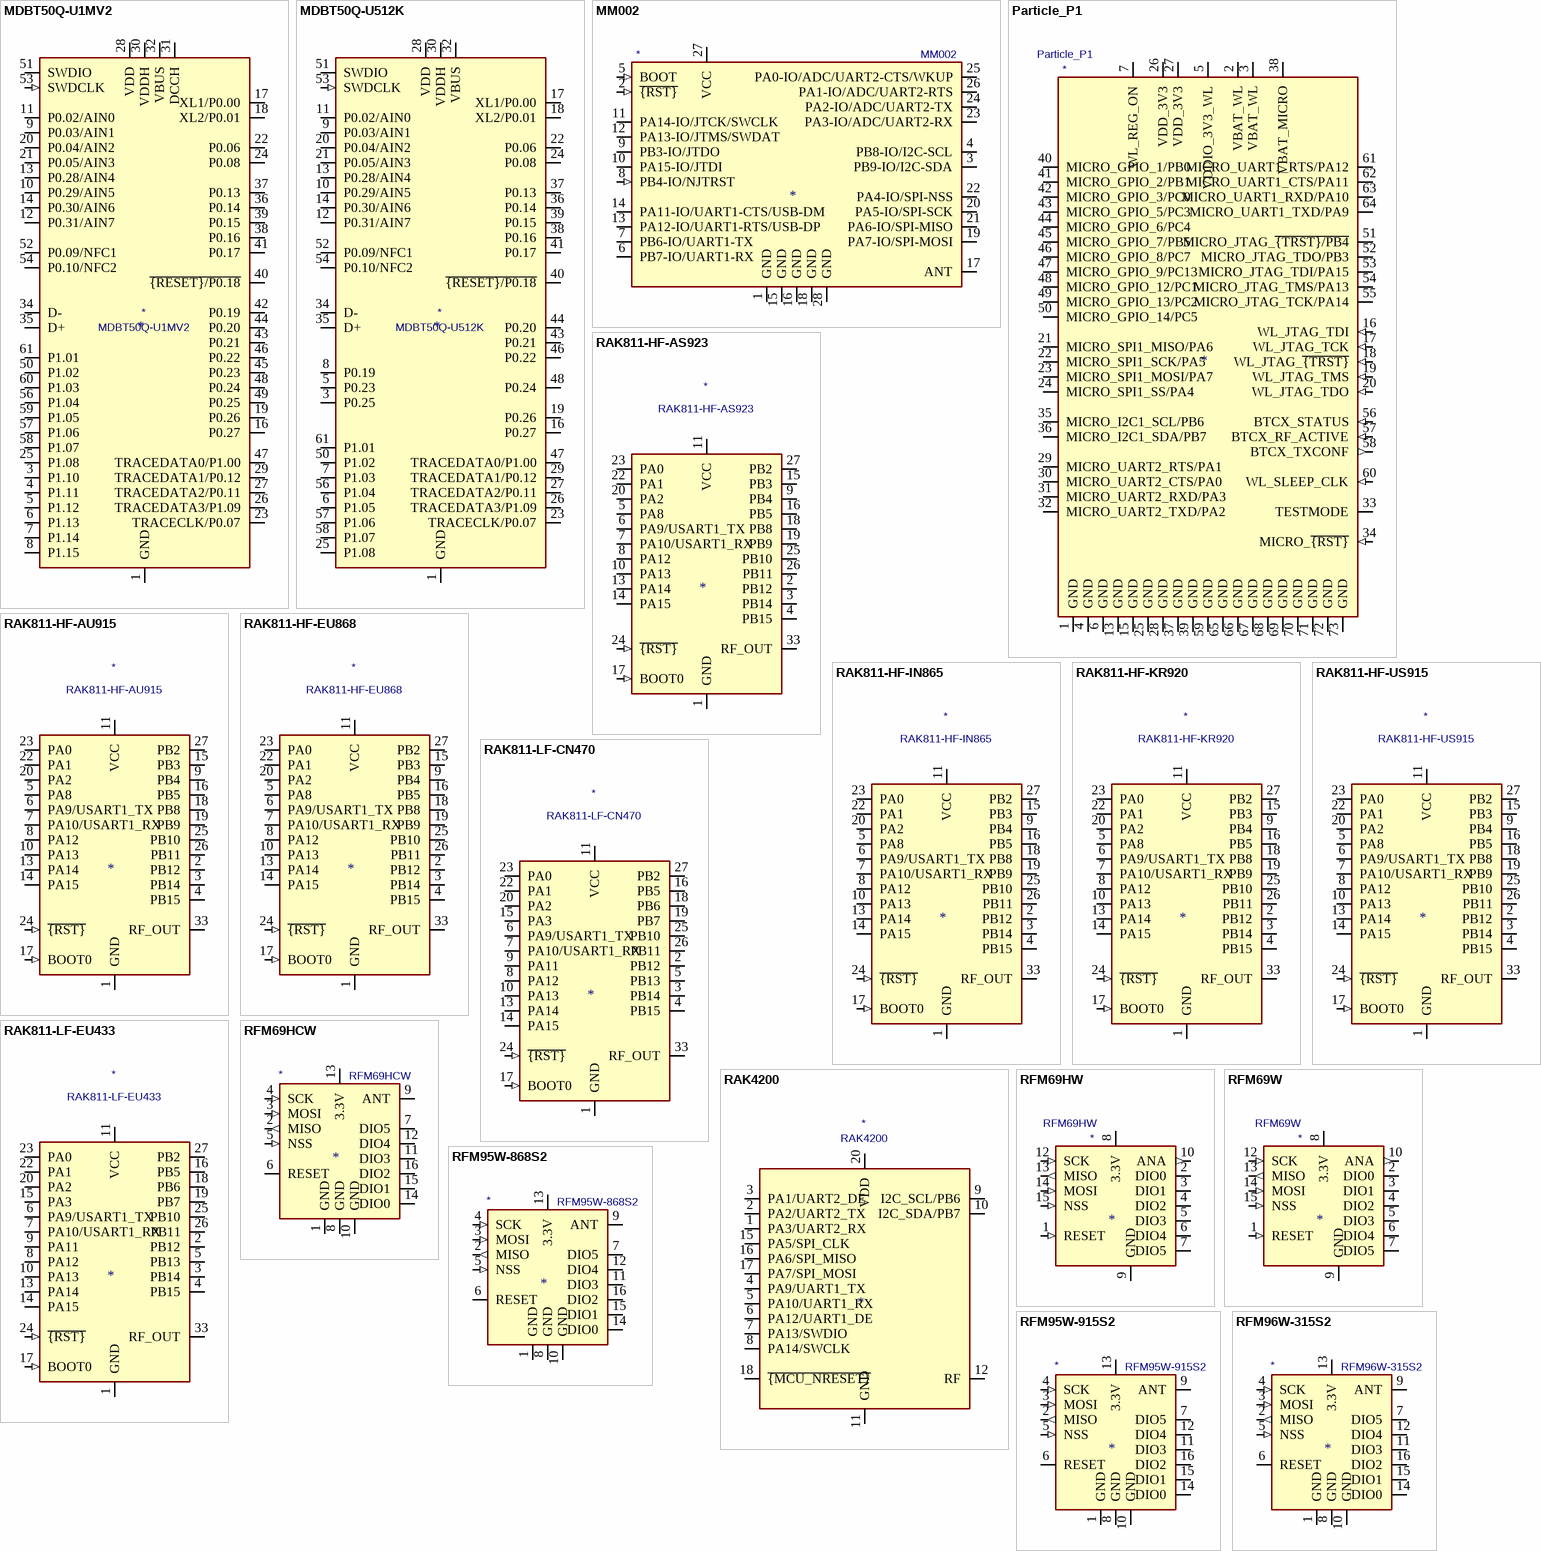
[diagram p2: symbols MDBT50Q-U1MV2 to RFM96W-315S2]

## MDBT50Q-U1MV2
designator *  value MDBT50Q-U1MV2
ki_keywords: BLE ANT ZigBee Thread 802.15.4 nRF52840 nordic MDBT50Q; ki_description: Multiprotocol BLE/ANT/2.4 GHz/802.15.4 Cortex-M4F SoC, nRF52840 module; ki_fp_filters: Raytac?MDBT50Q*; Footprint: RF_Module:Raytac_MDBT50Q; Supplier: https://www.raytac.com/download/index.php?index_id=43
footprint Raytac_MDBT50Q
pins: 1 GND (power), 2 GND hidden, 3 P1.10 (io), 4 P1.11 (io), 5 P1.12 (io), 6 P1.13 (io), 7 P1.14 (io), 8 P1.15 (io), 9 P0.03/AIN1 (io), 10 P0.29/AIN5 (io), 11 P0.02/AIN0 (io), 12 P0.31/AIN7 (io), 13 P0.28/AIN4 (io), 14 P0.30/AIN6 (io), 15 GND hidden, 16 P0.27 (io), 17 XL1/P0.00 (io), 18 XL2/P0.01 (io), 19 P0.26 (io), 20 P0.04/AIN2 (io), 21 P0.05/AIN3 (io), 22 P0.06 (io), 23 TRACECLK/P0.07 (io), 24 P0.08 (io), 25 P1.08 (io), 26 TRACEDATA3/P1.09 (io), 27 TRACEDATA2/P0.11 (io), 28 VDD (power), 29 TRACEDATA1/P0.12 (io), 30 VDDH (power), 31 DCCH (power), 32 VBUS (power), 33 GND hidden, 34 D- (io), 35 D+ (io), 36 P0.14 (io), 37 P0.13 (io), 38 P0.16 (io), 39 P0.15 (io), 40 ~{{RESET}/P0.18} (io), 41 P0.17 (io), 42 P0.19 (io), 43 P0.21 (io), 44 P0.20 (io), 45 P0.23 (io), 46 P0.22 (io), 47 TRACEDATA0/P1.00 (io), 48 P0.24 (io), 49 P0.25 (io), 50 P1.02 (io), 51 SWDIO (io), 52 P0.09/NFC1 (io), 53 SWDCLK (in), 54 P0.10/NFC2 (io), 55 GND hidden, 56 P1.04 (io), 57 P1.06 (io), 58 P1.07 (io), 59 P1.05 (io), 60 P1.03 (io), 61 P1.01 (io)

## MDBT50Q-U512K
designator *  value MDBT50Q-U512K
ki_keywords: MCU, ARM, BLE, ANT, 2.4GHz, 802.15.4 MDBT50Q; ki_description: Multiprotocol BLE/ANT/2.4 GHz/802.15.4 Cortex-M4F SoC, nRF52833 module; ki_fp_filters: Raytac?MDBT50Q*; Footprint: RF_Module:Raytac_MDBT50Q; Supplier: https://www.raytac.com/download/index.php?index_id=46
footprint Raytac_MDBT50Q
pins: 1 GND (power), 2 GND hidden, 3 P0.25 (io), 4 NC (in) hidden, 5 P0.23 (io), 6 P1.05 (io), 7 P1.03 (io), 8 P0.19 (io), 9 P0.03/AIN1 (io), 10 P0.29/AIN5 (io), 11 P0.02/AIN0 (io), 12 P0.31/AIN7 (io), 13 P0.28/AIN4 (io), 14 P0.30/AIN6 (io), 15 GND hidden, 16 P0.27 (io), 17 XL1/P0.00 (io), 18 XL2/P0.01 (io), 19 P0.26 (io), 20 P0.04/AIN2 (io), 21 P0.05/AIN3 (io), 22 P0.06 (io), 23 TRACECLK/P0.07 (io), 24 P0.08 (io), 25 P1.08 (io), 26 TRACEDATA3/P1.09 (io), 27 TRACEDATA2/P0.11 (io), 28 VDD (power), 29 TRACEDATA1/P0.12 (io), 30 VDDH (power), 31 NC (in) hidden, 32 VBUS (power), 33 GND hidden, 34 D- (io), 35 D+ (io), 36 P0.14 (io), 37 P0.13 (io), 38 P0.16 (io), 39 P0.15 (io), 40 ~{{RESET}/P0.18} (io), 41 P0.17 (io), 42 P0.19 (in) hidden, 43 P0.21 (io), 44 P0.20 (io), 45 NC (in) hidden, 46 P0.22 (io), 47 TRACEDATA0/P1.00 (io), 48 P0.24 (io), 49 NC (in) hidden, 50 P1.02 (io), 51 SWDIO (io), 52 P0.09/NFC1 (io), 53 SWDCLK (in), 54 P0.10/NFC2 (io), 55 GND hidden, 56 P1.04 (io), 57 P1.06 (io), 58 P1.07 (io), 59 NC (in) hidden, 60 NC (in) hidden, 61 P1.01 (io)

## MM002
designator *  value MM002
ki_keywords: IOT LoRa SIGFOX; ki_description: NEMEUS Modem dual-mode LoRa/SIGFOX; Supplier: http://www.nemeus.fr/resources/uploads/2015/04/MM002-xx-EU_datasheet_v0.11.pdf
pins: 1 GND (power), 2 ~{{RST}} (in), 3 PB9-IO/I2C-SDA (io), 4 PB8-IO/I2C-SCL (io), 5 BOOT (in), 6 PB7-IO/UART1-RX (io), 7 PB6-IO/UART1-TX (io), 8 PB4-IO/NJTRST (in), 9 PB3-IO/JTDO (io), 10 PA15-IO/JTDI (io), 11 PA14-IO/JTCK/SWCLK (io), 12 PA13-IO/JTMS/SWDAT (io), 13 PA12-IO/UART1-RTS/USB-DP (io), 14 PA11-IO/UART1-CTS/USB-DM (io), 15 GND (power), 16 GND (power), 17 ANT (io), 18 GND (power), 19 PA7-IO/SPI-MOSI (io), 20 PA5-IO/SPI-SCK (io), 21 PA6-IO/SPI-MISO (io), 22 PA4-IO/SPI-NSS (io), 23 PA3-IO/ADC/UART2-RX (io), 24 PA2-IO/ADC/UART2-TX (io), 25 PA0-IO/ADC/UART2-CTS/WKUP (io), 26 PA1-IO/ADC/UART2-RTS (io), 27 VCC (power), 28 GND (power)

## Particle_P1
designator *  value Particle_P1
ki_keywords: Wi-Fi module; ki_description: Wi-Fi module, 1MB flash, 128KB RAM; ki_fp_filters: Particle*P1*; Footprint: RF_Module:Particle_P1; Supplier: https://docs.particle.io/datasheets/p1-datasheet/
footprint Particle_P1
pins: 1 GND (power), 2 VBAT_WL (power), 3 VBAT_WL (power), 4 GND (power), 5 VDDIO_3V3_WL (power), 6 GND (power), 7 WL_REG_ON (power), 8 NC (in) hidden, 9 NC (in) hidden, 10 NC (in) hidden, 11 NC (in) hidden, 12 NC (in) hidden, 13 GND (power), 14 NC (in) hidden, 15 GND (power), 16 WL_JTAG_TDI (in), 17 WL_JTAG_TCK (in), 18 WL_JTAG_~{{TRST}} (in), 19 WL_JTAG_TMS (in), 20 WL_JTAG_TDO (in), 21 MICRO_SPI1_MISO/PA6 (io), 22 MICRO_SPI1_SCK/PA5 (io), 23 MICRO_SPI1_MOSI/PA7 (io), 24 MICRO_SPI1_SS/PA4 (io), 25 GND (power), 26 VDD_3V3 (power), 27 VDD_3V3 (power), 28 GND (power), 29 MICRO_UART2_RTS/PA1 (io), 30 MICRO_UART2_CTS/PA0 (io), 31 MICRO_UART2_RXD/PA3 (io), 32 MICRO_UART2_TXD/PA2 (io), 33 TESTMODE (io), 34 MICRO_~{{RST}} (in), 35 MICRO_I2C1_SCL/PB6 (io), 36 MICRO_I2C1_SDA/PB7 (io), 37 GND (power), 38 VBAT_MICRO (power), 39 GND (power), 40 MICRO_GPIO_1/PB0 (io), 41 MICRO_GPIO_2/PB1 (io), 42 MICRO_GPIO_3/PC0 (io), 43 MICRO_GPIO_5/PC3 (io), 44 MICRO_GPIO_6/PC4 (io), 45 MICRO_GPIO_7/PB5 (io), 46 MICRO_GPIO_8/PC7 (io), 47 MICRO_GPIO_9/PC13 (io), 48 MICRO_GPIO_12/PC1 (io), 49 MICRO_GPIO_13/PC2 (io), 50 MICRO_GPIO_14/PC5 (io), 51 MICRO_JTAG_~{{TRST}/PB4} (io), 52 MICRO_JTAG_TDO/PB3 (io), 53 MICRO_JTAG_TDI/PA15 (io), 54 MICRO_JTAG_TMS/PA13 (io), 55 MICRO_JTAG_TCK/PA14 (io), 56 BTCX_STATUS (in), 57 BTCX_RF_ACTIVE (in), 58 BTCX_TXCONF (out), 59 GND (power), 60 WL_SLEEP_CLK (in), 61 MICRO_UART1_RTS/PA12 (io), 62 MICRO_UART1_CTS/PA11 (io), 63 MICRO_UART1_RXD/PA10 (io), 64 MICRO_UART1_TXD/PA9 (io), 65 GND (power), 66 GND (power), 67 GND (power), 68 GND (power), 69 GND (power), 70 GND (power), 71 GND (power), 72 GND (power), 73 GND (power), 74 PAD1 (in) hidden, 75 PAD2 (in) hidden

## RAK811-HF-AS923
designator *  value RAK811-HF-AS923
ki_keywords: IoT LoRa LoRaWAN RF; ki_description: LoRa Module, STM32L151, AS923, RAKwireless; ki_fp_filters: RAK811*; Footprint: RF_Module:RAK811; Supplier: https://downloads.rakwireless.com/LoRa/RAK811/Hardware_Specification/RAK811_LoRa_Module_Datasheet_V1.4.pdf
footprint RAK811
pins: 1 GND (power), 2 PB12 (io), 3 PB14 (io), 4 PB15 (io), 5 PA8 (io), 6 PA9/USART1_TX (io), 7 PA10/USART1_RX (io), 8 PA12 (io), 9 PB4 (io), 10 PA13 (io), 11 VCC (power), 12 GND hidden, 13 PA14 (io), 14 PA15 (io), 15 PB3 (io), 16 PB5 (io), 17 BOOT0 (in), 18 PB8 (io), 19 PB9 (io), 20 PA2 (io), 21 GND hidden, 22 PA1 (io), 23 PA0 (io), 24 ~{{RST}} (in), 25 PB10 (io), 26 PB11 (io), 27 PB2 (io), 28 GND hidden, 29 GND hidden, 30 GND hidden, 31 GND hidden, 32 GND hidden, 33 RF_OUT, 34 GND hidden

## RAK811-HF-AU915
designator *  value RAK811-HF-AU915
ki_keywords: IoT LoRa LoRaWAN RF; ki_description: LoRa Module, STM32L151, AU915, RAKwireless; ki_fp_filters: RAK811*; Footprint: RF_Module:RAK811; Supplier: https://downloads.rakwireless.com/LoRa/RAK811/Hardware_Specification/RAK811_LoRa_Module_Datasheet_V1.4.pdf
footprint RAK811
pins: 1 GND (power), 2 PB12 (io), 3 PB14 (io), 4 PB15 (io), 5 PA8 (io), 6 PA9/USART1_TX (io), 7 PA10/USART1_RX (io), 8 PA12 (io), 9 PB4 (io), 10 PA13 (io), 11 VCC (power), 12 GND hidden, 13 PA14 (io), 14 PA15 (io), 15 PB3 (io), 16 PB5 (io), 17 BOOT0 (in), 18 PB8 (io), 19 PB9 (io), 20 PA2 (io), 21 GND hidden, 22 PA1 (io), 23 PA0 (io), 24 ~{{RST}} (in), 25 PB10 (io), 26 PB11 (io), 27 PB2 (io), 28 GND hidden, 29 GND hidden, 30 GND hidden, 31 GND hidden, 32 GND hidden, 33 RF_OUT, 34 GND hidden

## RAK811-HF-EU868
designator *  value RAK811-HF-EU868
ki_keywords: IoT LoRa LoRaWAN RF; ki_description: LoRa Module, STM32L151, EU868, RAKwireless; ki_fp_filters: RAK811*; Footprint: RF_Module:RAK811; Supplier: https://downloads.rakwireless.com/LoRa/RAK811/Hardware_Specification/RAK811_LoRa_Module_Datasheet_V1.4.pdf
footprint RAK811
pins: 1 GND (power), 2 PB12 (io), 3 PB14 (io), 4 PB15 (io), 5 PA8 (io), 6 PA9/USART1_TX (io), 7 PA10/USART1_RX (io), 8 PA12 (io), 9 PB4 (io), 10 PA13 (io), 11 VCC (power), 12 GND hidden, 13 PA14 (io), 14 PA15 (io), 15 PB3 (io), 16 PB5 (io), 17 BOOT0 (in), 18 PB8 (io), 19 PB9 (io), 20 PA2 (io), 21 GND hidden, 22 PA1 (io), 23 PA0 (io), 24 ~{{RST}} (in), 25 PB10 (io), 26 PB11 (io), 27 PB2 (io), 28 GND hidden, 29 GND hidden, 30 GND hidden, 31 GND hidden, 32 GND hidden, 33 RF_OUT, 34 GND hidden

## RAK811-HF-IN865
designator *  value RAK811-HF-IN865
ki_keywords: IoT LoRa LoRaWAN RF; ki_description: LoRa Module, STM32L151, IN865, RAKwireless; ki_fp_filters: RAK811*; Footprint: RF_Module:RAK811; Supplier: https://downloads.rakwireless.com/LoRa/RAK811/Hardware_Specification/RAK811_LoRa_Module_Datasheet_V1.4.pdf
footprint RAK811
pins: 1 GND (power), 2 PB12 (io), 3 PB14 (io), 4 PB15 (io), 5 PA8 (io), 6 PA9/USART1_TX (io), 7 PA10/USART1_RX (io), 8 PA12 (io), 9 PB4 (io), 10 PA13 (io), 11 VCC (power), 12 GND hidden, 13 PA14 (io), 14 PA15 (io), 15 PB3 (io), 16 PB5 (io), 17 BOOT0 (in), 18 PB8 (io), 19 PB9 (io), 20 PA2 (io), 21 GND hidden, 22 PA1 (io), 23 PA0 (io), 24 ~{{RST}} (in), 25 PB10 (io), 26 PB11 (io), 27 PB2 (io), 28 GND hidden, 29 GND hidden, 30 GND hidden, 31 GND hidden, 32 GND hidden, 33 RF_OUT, 34 GND hidden

## RAK811-HF-KR920
designator *  value RAK811-HF-KR920
ki_keywords: IoT LoRa LoRaWAN RF; ki_description: LoRa Module, STM32L151, KR920, RAKwireless; ki_fp_filters: RAK811*; Footprint: RF_Module:RAK811; Supplier: https://downloads.rakwireless.com/LoRa/RAK811/Hardware_Specification/RAK811_LoRa_Module_Datasheet_V1.4.pdf
footprint RAK811
pins: 1 GND (power), 2 PB12 (io), 3 PB14 (io), 4 PB15 (io), 5 PA8 (io), 6 PA9/USART1_TX (io), 7 PA10/USART1_RX (io), 8 PA12 (io), 9 PB4 (io), 10 PA13 (io), 11 VCC (power), 12 GND hidden, 13 PA14 (io), 14 PA15 (io), 15 PB3 (io), 16 PB5 (io), 17 BOOT0 (in), 18 PB8 (io), 19 PB9 (io), 20 PA2 (io), 21 GND hidden, 22 PA1 (io), 23 PA0 (io), 24 ~{{RST}} (in), 25 PB10 (io), 26 PB11 (io), 27 PB2 (io), 28 GND hidden, 29 GND hidden, 30 GND hidden, 31 GND hidden, 32 GND hidden, 33 RF_OUT, 34 GND hidden

## RAK811-HF-US915
designator *  value RAK811-HF-US915
ki_keywords: IoT LoRa LoRaWAN RF; ki_description: LoRa Module, STM32L151, US915, RAKwireless; ki_fp_filters: RAK811*; Footprint: RF_Module:RAK811; Supplier: https://downloads.rakwireless.com/LoRa/RAK811/Hardware_Specification/RAK811_LoRa_Module_Datasheet_V1.4.pdf
footprint RAK811
pins: 1 GND (power), 2 PB12 (io), 3 PB14 (io), 4 PB15 (io), 5 PA8 (io), 6 PA9/USART1_TX (io), 7 PA10/USART1_RX (io), 8 PA12 (io), 9 PB4 (io), 10 PA13 (io), 11 VCC (power), 12 GND hidden, 13 PA14 (io), 14 PA15 (io), 15 PB3 (io), 16 PB5 (io), 17 BOOT0 (in), 18 PB8 (io), 19 PB9 (io), 20 PA2 (io), 21 GND hidden, 22 PA1 (io), 23 PA0 (io), 24 ~{{RST}} (in), 25 PB10 (io), 26 PB11 (io), 27 PB2 (io), 28 GND hidden, 29 GND hidden, 30 GND hidden, 31 GND hidden, 32 GND hidden, 33 RF_OUT, 34 GND hidden

## RAK811-LF-CN470
designator *  value RAK811-LF-CN470
ki_keywords: IoT LoRa LoRaWAN RF; ki_description: LoRa Module, STM32L151, CN470, RAKwireless; ki_fp_filters: RAK811*; Footprint: RF_Module:RAK811; Supplier: https://downloads.rakwireless.com/LoRa/RAK811/Hardware_Specification/RAK811_LoRa_Module_Datasheet_V1.4.pdf
footprint RAK811
pins: 1 GND (power), 2 PB12 (io), 3 PB14 (io), 4 PB15 (io), 5 PB13 (io), 6 PA9/USART1_TX (io), 7 PA10/USART1_RX (io), 8 PA12 (io), 9 PA11 (io), 10 PA13 (io), 11 VCC (power), 12 GND hidden, 13 PA14 (io), 14 PA15 (io), 15 PA3 (io), 16 PB5 (io), 17 BOOT0 (in), 18 PB6 (io), 19 PB7 (io), 20 PA2 (io), 21 GND hidden, 22 PA1 (io), 23 PA0 (io), 24 ~{{RST}} (in), 25 PB10 (io), 26 PB11 (io), 27 PB2 (io), 28 GND hidden, 29 GND hidden, 30 GND hidden, 31 GND hidden, 32 GND hidden, 33 RF_OUT, 34 GND hidden

## RAK811-LF-EU433
designator *  value RAK811-LF-EU433
ki_keywords: IoT LoRa LoRaWAN RF; ki_description: LoRa Module, STM32L151, EU433, RAKwireless; ki_fp_filters: RAK811*; Footprint: RF_Module:RAK811; Supplier: https://downloads.rakwireless.com/LoRa/RAK811/Hardware_Specification/RAK811_LoRa_Module_Datasheet_V1.4.pdf
footprint RAK811
pins: 1 GND (power), 2 PB12 (io), 3 PB14 (io), 4 PB15 (io), 5 PB13 (io), 6 PA9/USART1_TX (io), 7 PA10/USART1_RX (io), 8 PA12 (io), 9 PA11 (io), 10 PA13 (io), 11 VCC (power), 12 GND hidden, 13 PA14 (io), 14 PA15 (io), 15 PA3 (io), 16 PB5 (io), 17 BOOT0 (in), 18 PB6 (io), 19 PB7 (io), 20 PA2 (io), 21 GND hidden, 22 PA1 (io), 23 PA0 (io), 24 ~{{RST}} (in), 25 PB10 (io), 26 PB11 (io), 27 PB2 (io), 28 GND hidden, 29 GND hidden, 30 GND hidden, 31 GND hidden, 32 GND hidden, 33 RF_OUT, 34 GND hidden

## RAK4200
designator *  value RAK4200
ki_keywords: IoT, LoRa, LoRaWAN, RF; ki_description: LoRa Module, STM32L071,  RAKwireless; ki_fp_filters: RAK4200*; Footprint: RF_Module:RAK4200; Supplier: https://downloads.rakwireless.com/LoRa/RAK4200/Hardware-Specification/RAK4200_Module_Specifications_V1.4.pdf
footprint RAK4200
pins: 1 PA3/UART2_RX (io), 2 PA2/UART2_TX (io), 3 PA1/UART2_DE (io), 4 PA9/UART1_TX (io), 5 PA10/UART1_RX (io), 6 PA12/UART1_DE (io), 7 PA13/SWDIO (io), 8 PA14/SWCLK (io), 9 I2C_SCL/PB6 (io), 10 I2C_SDA/PB7 (io), 11 GND (power), 12 RF, 13 GND hidden, 14 GND hidden, 15 PA5/SPI_CLK (io), 16 PA6/SPI_MISO (io), 17 PA7/SPI_MOSI (io), 18 ~{{MCU_NRESET}} (io), 19 GND hidden, 20 VDD (power)

## RFM69HCW
designator *  value RFM69HCW
ki_keywords: low power Radio ISM Transceiver Module AES encryption SPI HopeRF; ki_description: Low power ISM Radio Transceiver Module, SPI interface, AES encryption, 434 or 915 MHz, up to 100mW, up to 300 kb/s, SMD-16, DIP-16; ki_fp_filters: HOPERF*RFM9XW*; Supplier: https://www.hoperf.com/data/upload/portal/20181127/5bfcb8284d838.pdf
pins: 1 GND (power), 2 MISO (out), 3 MOSI (in), 4 SCK (in), 5 NSS (in), 6 RESET (io), 7 DIO5 (io), 8 GND (power), 9 ANT (io), 10 GND (power), 11 DIO3 (io), 12 DIO4 (io), 13 3.3V (power), 14 DIO0 (io), 15 DIO1 (io), 16 DIO2 (io)

## RFM69HW
designator *  value RFM69HW
ki_keywords: Radio, ISM, Transceiver, Module, AES; ki_description: ISM Radio Transceiver Module, SPI interface; ki_fp_filters: HOPERF*RFM69HW*; Footprint: RF_Module:HOPERF_RFM69HW; Supplier: https://www.hoperf.com/data/upload/portal/20181127/5bfcbb56f1fd7.pdf
footprint HOPERF_RFM69HW
pins: 1 RESET (in), 2 DIO0 (io), 3 DIO1 (io), 4 DIO2 (io), 5 DIO3 (io), 6 DIO4 (io), 7 DIO5 (io), 8 3.3V (power), 9 GND (power), 10 ANA (out), 11 GND hidden, 12 SCK (in), 13 MISO (out), 14 MOSI (in), 15 NSS (in), 16 NC (in) hidden

## RFM69W
designator *  value RFM69W
ki_keywords: Radio, ISM, Transceiver, Module, AES; ki_description: ISM Radio Transceiver Module, SPI interface; ki_fp_filters: HOPERF*RFM69HW*; Footprint: RF_Module:HOPERF_RFM69HW; Supplier: https://www.hoperf.com/data/upload/portal/20181127/5bfcbe34756e1.pdf
footprint HOPERF_RFM69HW
pins: 1 RESET (in), 2 DIO0 (io), 3 DIO1 (io), 4 DIO2 (io), 5 DIO3 (io), 6 DIO4 (io), 7 DIO5 (io), 8 3.3V (power), 9 GND (power), 10 ANA (out), 11 GND hidden, 12 SCK (in), 13 MISO (out), 14 MOSI (in), 15 NSS (in), 16 NC (in) hidden

## RFM95W-868S2
designator *  value RFM95W-868S2
ki_keywords: Low power long range transceiver module; ki_description: Low power long range transceiver module, SPI and parallel interface, 868 MHz, spreading factor 6 to12, bandwidth 7.8 to 500kHz, -111 to -148 dBm, SMD-16, DIP-16; ki_fp_filters: HOPERF*RFM9XW*; Supplier: https://www.hoperf.com/data/upload/portal/20181127/5bfcbea20e9ef.pdf
pins: 1 GND (power), 2 MISO (out), 3 MOSI (in), 4 SCK (in), 5 NSS (in), 6 RESET (io), 7 DIO5 (io), 8 GND (power), 9 ANT (io), 10 GND (power), 11 DIO3 (io), 12 DIO4 (io), 13 3.3V (power), 14 DIO0 (io), 15 DIO1 (io), 16 DIO2 (io)

## RFM95W-915S2
designator *  value RFM95W-915S2
ki_keywords: Low power long range transceiver module; ki_description: Low power long range transceiver module, SPI and parallel interface, 915 MHz, spreading factor 6 to12, bandwidth 7.8 to 500kHz, -111 to -148 dBm, SMD-16, DIP-16; ki_fp_filters: HOPERF*RFM9XW*; Supplier: https://www.hoperf.com/data/upload/portal/20181127/5bfcbea20e9ef.pdf
pins: 1 GND (power), 2 MISO (out), 3 MOSI (in), 4 SCK (in), 5 NSS (in), 6 RESET (io), 7 DIO5 (io), 8 GND (power), 9 ANT (io), 10 GND (power), 11 DIO3 (io), 12 DIO4 (io), 13 3.3V (power), 14 DIO0 (io), 15 DIO1 (io), 16 DIO2 (io)

## RFM96W-315S2
designator *  value RFM96W-315S2
ki_keywords: Low power long range transceiver module; ki_description: Low power long range transceiver module, SPI and parallel interface, 315 MHz, spreading factor 6 to12, bandwidth 7.8 to 500kHz, -111 to -148 dBm, SMD-16, DIP-16; ki_fp_filters: HOPERF*RFM9XW*; Supplier: https://www.hoperf.com/data/upload/portal/20181127/5bfcc0ac60235.pdf
pins: 1 GND (power), 2 MISO (out), 3 MOSI (in), 4 SCK (in), 5 NSS (in), 6 RESET (io), 7 DIO5 (io), 8 GND (power), 9 ANT (io), 10 GND (power), 11 DIO3 (io), 12 DIO4 (io), 13 3.3V (power), 14 DIO0 (io), 15 DIO1 (io), 16 DIO2 (io)

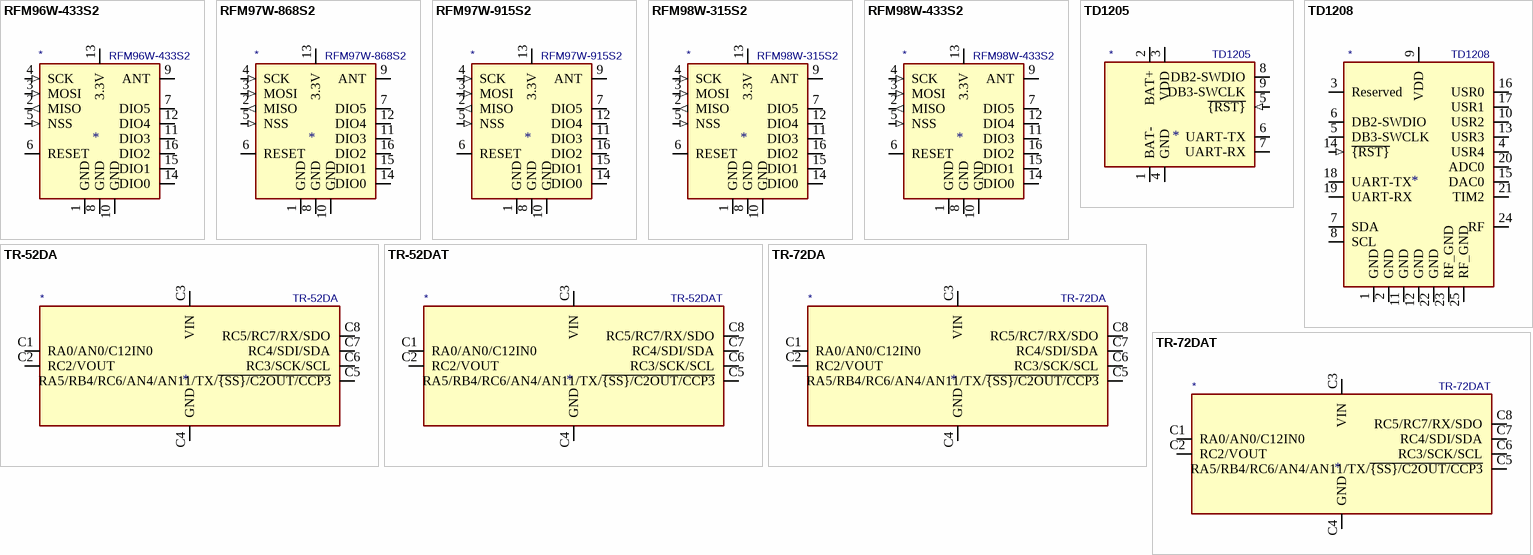
[diagram p3: symbols RFM96W-433S2 to TR-72DAT]

## RFM96W-433S2
designator *  value RFM96W-433S2
ki_keywords: Low power long range transceiver module; ki_description: Low power long range transceiver module, SPI and parallel interface, 433 MHz, spreading factor 6 to12, bandwidth 7.8 to 500kHz, -111 to -148 dBm, SMD-16, DIP-16; ki_fp_filters: HOPERF*RFM9XW*; Supplier: https://www.hoperf.com/data/upload/portal/20181127/5bfcc0ac60235.pdf
pins: 1 GND (power), 2 MISO (out), 3 MOSI (in), 4 SCK (in), 5 NSS (in), 6 RESET (io), 7 DIO5 (io), 8 GND (power), 9 ANT (io), 10 GND (power), 11 DIO3 (io), 12 DIO4 (io), 13 3.3V (power), 14 DIO0 (io), 15 DIO1 (io), 16 DIO2 (io)

## RFM97W-868S2
designator *  value RFM97W-868S2
ki_keywords: Low power long range transceiver module; ki_description: Low power long range transceiver module, SPI and parallel interface, 868 MHz, spreading factor 6 to12, bandwidth 7.8 to 500kHz, -111 to -139 dBm, SMD-16, DIP-16; ki_fp_filters: HOPERF*RFM9XW*; Supplier: https://www.hoperf.com/data/upload/portal/20181127/5bfcbea20e9ef.pdf
pins: 1 GND (power), 2 MISO (out), 3 MOSI (in), 4 SCK (in), 5 NSS (in), 6 RESET (io), 7 DIO5 (io), 8 GND (power), 9 ANT (io), 10 GND (power), 11 DIO3 (io), 12 DIO4 (io), 13 3.3V (power), 14 DIO0 (io), 15 DIO1 (io), 16 DIO2 (io)

## RFM97W-915S2
designator *  value RFM97W-915S2
ki_keywords: Low power long range transceiver module; ki_description: Low power long range transceiver module, SPI and parallel interface, 915 MHz, spreading factor 6 to12, bandwidth 7.8 to 500kHz, -111 to -139 dBm, SMD-16, DIP-16; ki_fp_filters: HOPERF*RFM9XW*; Supplier: https://www.hoperf.com/data/upload/portal/20181127/5bfcbea20e9ef.pdf
pins: 1 GND (power), 2 MISO (out), 3 MOSI (in), 4 SCK (in), 5 NSS (in), 6 RESET (io), 7 DIO5 (io), 8 GND (power), 9 ANT (io), 10 GND (power), 11 DIO3 (io), 12 DIO4 (io), 13 3.3V (power), 14 DIO0 (io), 15 DIO1 (io), 16 DIO2 (io)

## RFM98W-315S2
designator *  value RFM98W-315S2
ki_keywords: Low power long range transceiver module; ki_description: Low power long range transceiver module, SPI and parallel interface, 315 MHz, spreading factor 6 to12, bandwidth 7.8 to 500kHz, -111 to -148 dBm, SMD-16, DIP-16; ki_fp_filters: HOPERF*RFM9XW*; Supplier: https://www.hoperf.com/data/upload/portal/20181127/5bfcdb5e17543.pdf
pins: 1 GND (power), 2 MISO (out), 3 MOSI (in), 4 SCK (in), 5 NSS (in), 6 RESET (io), 7 DIO5 (io), 8 GND (power), 9 ANT (io), 10 GND (power), 11 DIO3 (io), 12 DIO4 (io), 13 3.3V (power), 14 DIO0 (io), 15 DIO1 (io), 16 DIO2 (io)